# Altium integrated library Motorola Microcontroller 32-Bit.IntLib: 337 symbols (part 28 of 29)
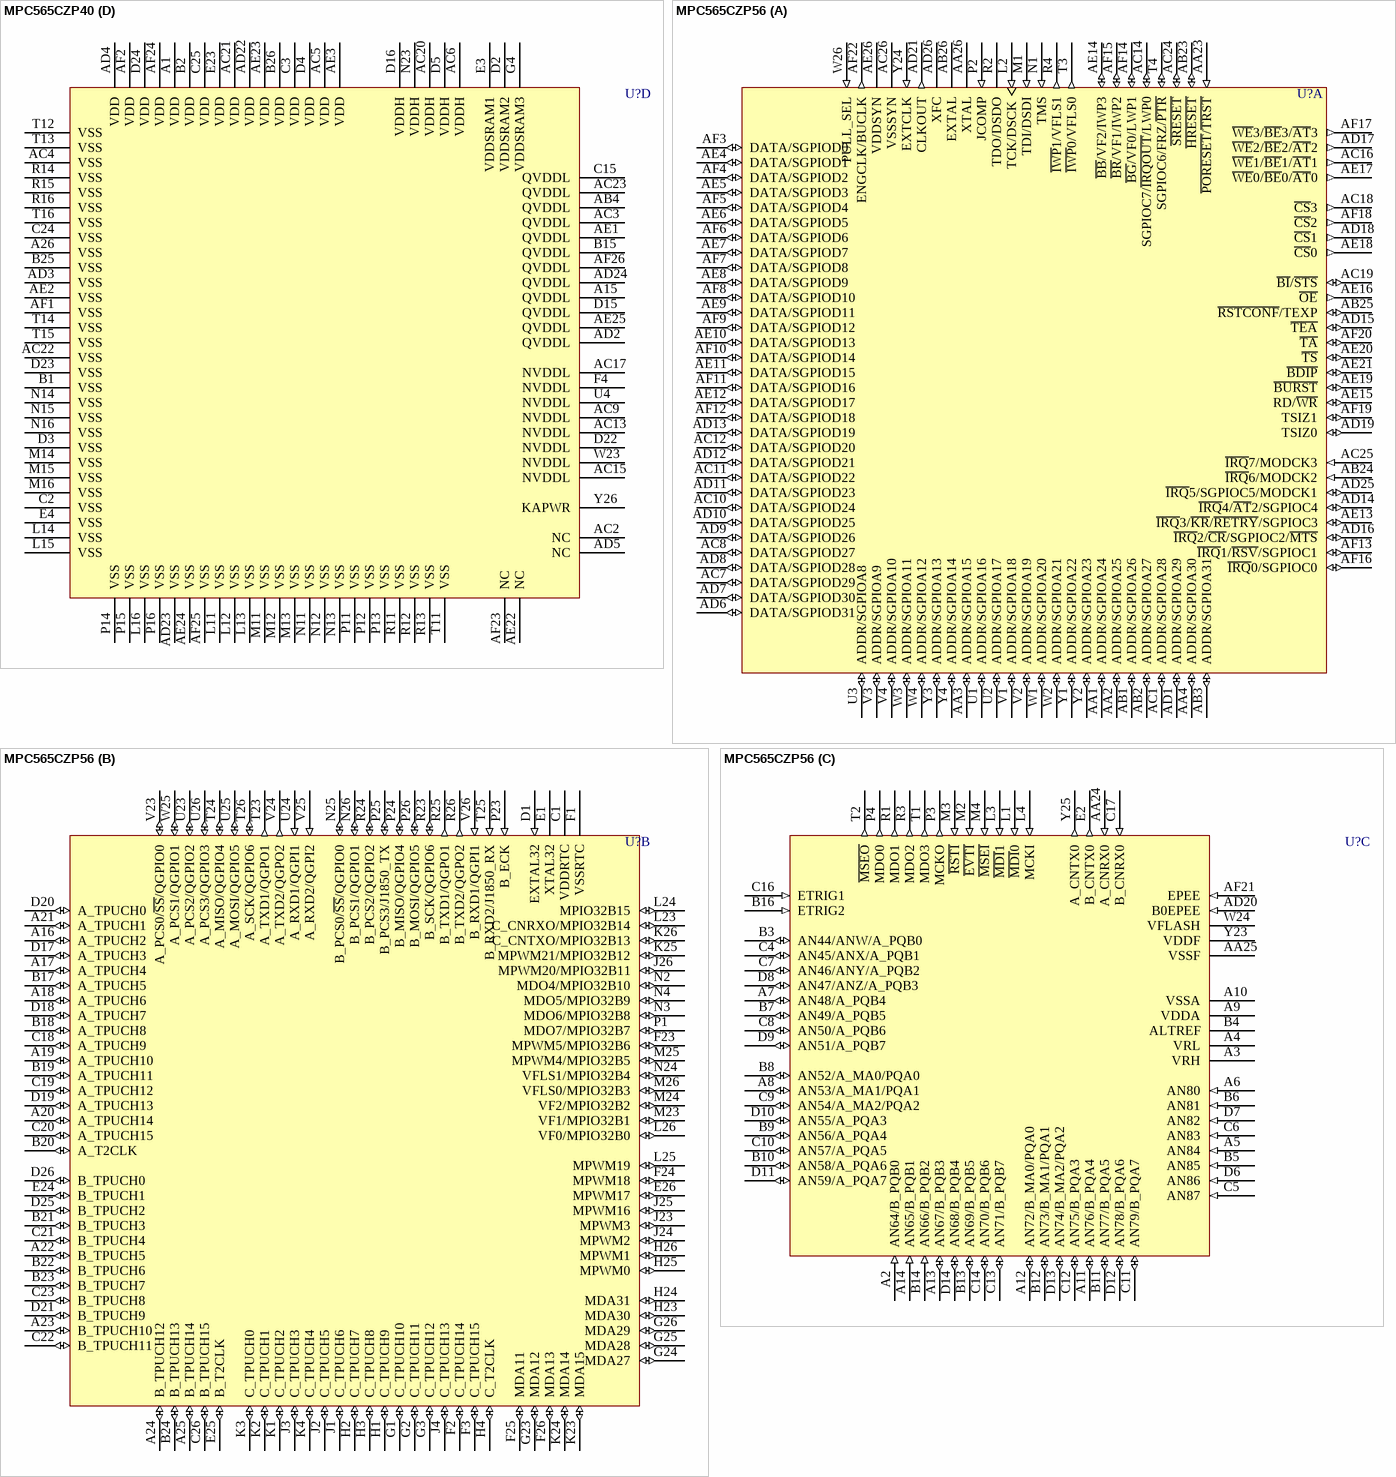
[diagram p266: symbols MPC565CZP40 to MPC565CZP56]

## MPC565CZP40
designator U?
32-Bit Microcontroller; Published: 21-Mar-2003; LatestRevisionDate: 13-Apr-2006; LatestRevisionNote: IPC-7351 Footprint Added.; DatasheetVersion: 13-Sep-2002; PackageVersion: Jun-2001; PackageReference: 1164-01; Publisher: Altium Limited; PackageDescription: 388-Ball Plastic Ball Grid Array 1 mm Pitch; ComponentLink1Description: Manufacturer Link; ComponentLink1URL: http://www.freescale.com/
footprint 1164-01 (BGA, 388-Leads, Body 27x27mm, Pitch 1mm)
3D model MPC565-1164-01 (388-Ball Plastic Ball Grid Array 1 mm Pitch)
part A pins: AA1 ADDR/SGPIOA24 (io), AA2 ADDR/SGPIOA25 (io), AA3 ADDR/SGPIOA15 (io), AA4 ADDR/SGPIOA30 (io), AA23 ~{PORESET}/~{TRST} (in), AA26 XTAL, AB1 ADDR/SGPIOA26 (io), AB2 ADDR/SGPIOA27 (io), AB3 ADDR/SGPIOA31 (io), AB23 ~{HRESET} (io), AB24 ~{IRQ}6/MODCK2 (in), AB25 ~{RSTCONF}/TEXP (io), AB26 EXTAL, AC1 ADDR/SGPIOA28 (io), AC7 DATA/SGPIOD29 (io), AC8 DATA/SGPIOD27 (io), AC10 DATA/SGPIOD24 (io), AC11 DATA/SGPIOD22 (io), AC12 DATA/SGPIOD20 (io), AC14 SGPIOC7/~{IRQOUT}/LWP0 (io), AC16 ~{WE}1/~{BE}1/~{AT}1 (out), AC18 ~{CS}3 (out), AC19 ~{BI}/~{STS} (io), AC24 ~{SRESET} (io), AC25 ~{IRQ}7/MODCK3 (in), AC26 VSSSYN (power), AD1 ADDR/SGPIOA29 (io), AD6 DATA/SGPIOD31 (io), AD7 DATA/SGPIOD30 (io), AD8 DATA/SGPIOD28 (io), AD9 DATA/SGPIOD26 (io), AD10 DATA/SGPIOD25 (io), AD11 DATA/SGPIOD23 (io), AD12 DATA/SGPIOD21 (io), AD13 DATA/SGPIOD19 (io), AD14 ~{IRQ}4/~{AT}2/SGPIOC4 (io), AD15 ~{TEA} (io), AD16 ~{IRQ}2/~{CR}/SGPIOC2/~{MTS} (io), AD17 ~{WE}2/~{BE}2/~{AT}2 (out), AD18 ~{CS}1 (out), AD19 TSIZ0 (io), AD21 CLKOUT (out), AD25 ~{IRQ}5/SGPIOC5/MODCK1 (io), AD26 XFC, AE4 DATA/SGPIOD1 (io), AE5 DATA/SGPIOD3 (io), AE6 DATA/SGPIOD5 (io), AE7 DATA/SGPIOD7 (io), AE8 DATA/SGPIOD9 (io), AE9 DATA/SGPIOD11 (io), AE10 DATA/SGPIOD13 (io), AE11 DATA/SGPIOD15 (io), AE12 DATA/SGPIOD17 (io), AE13 ~{IRQ}3/~{KR}/~{RETRY}/SGPIOC3 (io), AE14 ~{BB}/VF2/IWP3 (io), AE15 RD/~{WR} (io), AE16 ~{OE} (out), AE17 ~{WE}0/~{BE}0/~{AT}0 (out), AE18 ~{CS}0 (out), AE19 ~{BURST} (io), AE20 ~{TS} (io), AE21 ~{BDIP} (io), AE26 VDDSYN (power), AF3 DATA/SGPIOD0 (io), AF4 DATA/SGPIOD2 (io), AF5 DATA/SGPIOD4 (io), AF6 DATA/SGPIOD6 (io), AF7 DATA/SGPIOD8 (io), AF8 DATA/SGPIOD10 (io), AF9 DATA/SGPIOD12 (io), AF10 DATA/SGPIOD14 (io), AF11 DATA/SGPIOD16 (io), AF12 DATA/SGPIOD18 (io), AF13 ~{IRQ}1/~{RSV}/SGPIOC1 (io), AF14 ~{BG}/VF0/LWP1 (io), AF15 ~{BR}/VF1/IWP2 (io), AF16 ~{IRQ}0/SGPIOC0 (io), AF17 ~{WE}3/~{BE}3/~{AT}3 (out), AF18 ~{CS}2 (out), AF19 TSIZ1 (io), AF20 ~{TA} (io), AF22 ENGCLK/BUCLK (out), L2 TCK/DSCK (in), M1 TDI/DSDI (in), N1 TMS (in), P2 JCOMP (in), R2 TDO/DSDO (hiz), R4 ~{IWP}1/VFLS1 (out), T3 ~{IWP}0/VFLS0 (out), T4 SGPIOC6/FRZ/~{PTR} (io), U1 ADDR/SGPIOA16 (io), U2 ADDR/SGPIOA17 (io), U3 ADDR/SGPIOA8 (io), V1 ADDR/SGPIOA18 (io), V2 ADDR/SGPIOA19 (io), V3 ADDR/SGPIOA9 (io), V4 ADDR/SGPIOA10 (io), W1 ADDR/SGPIOA20 (io), W2 ADDR/SGPIOA21 (io), W3 ADDR/SGPIOA11 (io), W4 ADDR/SGPIOA12 (io), W26 PULL_SEL (in), Y1 ADDR/SGPIOA22 (io), Y2 ADDR/SGPIOA23 (io), Y3 ADDR/SGPIOA13 (io), Y4 ADDR/SGPIOA14 (io), Y24 EXTCLK (in)
part B pins: A16 A_TPUCH2 (io), A17 A_TPUCH4 (io), A18 A_TPUCH6 (io), A19 A_TPUCH10 (io), A20 A_TPUCH14 (io), A21 A_TPUCH1 (io), A22 B_TPUCH5 (io), A23 B_TPUCH10 (io), A24 B_TPUCH12 (io), A25 B_TPUCH14 (io), B17 A_TPUCH5 (io), B18 A_TPUCH8 (io), B19 A_TPUCH11 (io), B20 A_T2CLK (io), B21 B_TPUCH3 (io), B22 B_TPUCH6 (io), B23 B_TPUCH7 (io), B24 B_TPUCH13 (io), C1 VDDRTC (power), C18 A_TPUCH9 (io), C19 A_TPUCH12 (io), C20 A_TPUCH15 (io), C21 B_TPUCH4 (io), C22 B_TPUCH11 (io), C23 B_TPUCH8 (io), C26 B_TPUCH15 (io), D1 EXTAL32 (in), D17 A_TPUCH3 (io), D18 A_TPUCH7 (io), D19 A_TPUCH13 (io), D20 A_TPUCH0 (io), D21 B_TPUCH9 (io), D25 B_TPUCH2 (io), D26 B_TPUCH0 (io), E1 XTAL32, E24 B_TPUCH1 (io), E25 B_T2CLK (io), E26 MPWM17 (io), F1 VSSRTC (power), F2 C_TPUCH14 (io), F3 C_TPUCH15 (io), F23 MPWM5/MPIO32B6 (io), F24 MPWM18 (io), F25 MDA11 (io), F26 MDA13 (io), G1 C_TPUCH10 (io), G2 C_TPUCH11 (io), G3 C_TPUCH12 (io), G23 MDA12 (io), G24 MDA27 (io), G25 MDA28 (io), G26 MDA29 (io), H1 C_TPUCH9 (io), H2 C_TPUCH7 (io), H3 C_TPUCH8 (io), H4 C_T2CLK (io), H23 MDA30 (io), H24 MDA31 (io), H25 MPWM0 (io), H26 MPWM1 (io), J1 C_TPUCH6 (io), J2 C_TPUCH5 (io), J3 C_TPUCH3 (io), J4 C_TPUCH13 (io), J23 MPWM3 (io), J24 MPWM2 (io), J25 MPWM16 (io), J26 MPWM20/MPIO32B11 (io), K1 C_TPUCH2 (io), K2 C_TPUCH1 (io), K3 C_TPUCH0 (io), K4 C_TPUCH4 (io), K23 MDA15 (io), K24 MDA14 (io), K25 MPWM21/MPIO32B12 (io), K26 C_CNTXO/MPIO32B13 (io), L23 C_CNRXO/MPIO32B14 (io), L24 MPIO32B15 (io), L25 MPWM19 (io), L26 VF0/MPIO32B0 (io), M23 VF1/MPIO32B1 (io), M24 VF2/MPIO32B2 (io), M25 MPWM4/MPIO32B5 (io), M26 VFLS0/MPIO32B3 (io), N2 MDO4/MPIO32B10 (io), N3 MDO6/MPIO32B8 (io), N4 MDO5/MPIO32B9 (io), N24 VFLS1/MPIO32B4 (io), N25 B_PCS0/~{SS}/QGPIO0 (io), N26 B_PCS1/QGPIO1 (io), P1 MDO7/MPIO32B7 (io), P23 B_ECK (in), P24 B_MISO/QGPIO4 (io), P25 B_PCS3/J1850_TX (io), P26 B_MOSI/QGPIO5 (io), R23 B_SCK/QGPIO6 (io), R24 B_PCS2/QGPIO2 (io), R25 B_TXD1/QGPO1 (out), R26 B_TXD2/QGPO2 (out), T23 A_TXD1/QGPO1 (out), T24 A_MISO/QGPIO4 (io), T25 B_RXD2/J1850_RX (in), T26 A_SCK/QGPIO6 (io), U23 A_PCS2/QGPIO2 (io), U24 A_RXD1/QGPI1 (in), U25 A_MOSI/QGPIO5 (io), U26 A_PCS3/QGPIO3 (io), V23 A_PCS0/~{SS}/QGPIO0 (io), V24 A_TXD2/QGPO2 (out), V25 A_RXD2/QGPI2 (in), V26 B_RXD1/QGPI1 (in), W25 A_PCS1/QGPIO1 (io)
part C pins: A2 AN64/B_PQB0 (in), A3 VRH, A4 VRL, A5 AN84 (in), A6 AN80 (in), A7 AN48/A_PQB4 (io), A8 AN53/A_MA1/PQA1 (io), A9 VDDA (power), A10 VSSA (power), A11 AN76/B_PQA4 (io), A12 AN72/B_MA0/PQA0 (io), A13 AN67/B_PQB3 (io), A14 AN65/B_PQB1 (in), AA24 A_CNRX0 (in), AA25 VSSF (power), AD20 B0EPEE (in), AF21 EPEE (in), B3 AN44/ANW/A_PQB0 (io), B4 ALTREF, B5 AN85 (in), B6 AN81 (in), B7 AN49/A_PQB5 (io), B8 AN52/A_MA0/PQA0 (io), B9 AN56/A_PQA4 (io), B10 AN58/A_PQA6 (io), B11 AN77/B_PQA5 (io), B12 AN73/B_MA1/PQA1 (io), B13 AN69/B_PQB5 (io), B14 AN66/B_PQB2 (in), B16 ETRIG2 (in), C4 AN45/ANX/A_PQB1 (io), C5 AN87 (in), C6 AN83 (in), C7 AN46/ANY/A_PQB2 (io), C8 AN50/A_PQB6 (io), C9 AN54/A_MA2/PQA2 (io), C10 AN57/A_PQA5 (io), C11 AN79/B_PQA7 (io), C12 AN75/B_PQA3 (io), C13 AN71/B_PQB7 (io), C14 AN70/B_PQB6 (io), C16 ETRIG1 (in), C17 B_CNRX0 (in), D6 AN86 (in), D7 AN82 (in), D8 AN47/ANZ/A_PQB3 (io), D9 AN51/A_PQB7 (io), D10 AN55/A_PQA3 (io), D11 AN59/A_PQA7 (io), D12 AN78/B_PQA6 (io), D13 AN74/B_MA2/PQA2 (io), D14 AN68/B_PQB4 (io), E2 B_CNTX0 (out), L1 ~{MDI}0 (in), L3 ~{MDI}1 (in), L4 MCKI (in), M2 ~{EVTI} (in), M3 ~{RSTI} (in), M4 ~{MSEI} (in), P3 MCKO (out), P4 MDO0 (out), R1 MDO1 (out), R3 MDO2 (out), T1 MDO3 (out), T2 ~{MSEO} (out), W24 VFLASH (power), Y23 VDDF (power), Y25 A_CNTX0 (out)
part D pins: A1 VDD (power), A15 QVDDL (power), A26 VSS (power), AB4 QVDDL (power), AC2 NC, AC3 QVDDL (power), AC4 VSS (power), AC5 VDD (power), AC6 VDDH (power), AC9 NVDDL (power), AC13 NVDDL (power), AC15 NVDDL (power), AC17 NVDDL (power), AC20 VDDH (power), AC21 VDD (power), AC22 VSS (power), AC23 QVDDL (power), AD2 QVDDL (power), AD3 VSS (power), AD4 VDD (power), AD5 NC, AD22 VDD (power), AD23 VSS (power), AD24 QVDDL (power), AE1 QVDDL (power), AE2 VSS (power), AE3 VDD (power), AE22 NC, AE23 VDD (power), AE24 VSS (power), AE25 QVDDL (power), AF1 VSS (power), AF2 VDD (power), AF23 NC, AF24 VDD (power), AF25 VSS (power), AF26 QVDDL (power), B1 VSS (power), B2 VDD (power), B15 QVDDL (power), B25 VSS (power), B26 VDD (power), C2 VSS (power), C3 VDD (power), C15 QVDDL (power), C24 VSS (power), C25 VDD (power), D2 VDDSRAM2 (power), D3 VSS (power), D4 VDD (power), D5 VDDH (power), D15 QVDDL (power), D16 VDDH (power), D22 NVDDL (power), D23 VSS (power), D24 VDD (power), E3 VDDSRAM1 (power), E4 VSS (power), E23 VDD (power), F4 NVDDL (power), G4 VDDSRAM3 (power), L11 VSS (power), L12 VSS (power), L13 VSS (power), L14 VSS (power), L15 VSS (power), L16 VSS (power), M11 VSS (power), M12 VSS (power), M13 VSS (power), M14 VSS (power), M15 VSS (power), M16 VSS (power), N11 VSS (power), N12 VSS (power), N13 VSS (power), N14 VSS (power), N15 VSS (power), N16 VSS (power), N23 VDDH (power), P11 VSS (power), P12 VSS (power), P13 VSS (power), P14 VSS (power), P15 VSS (power), P16 VSS (power), R11 VSS (power), R12 VSS (power), R13 VSS (power), R14 VSS (power), R15 VSS (power), R16 VSS (power), T11 VSS (power), T12 VSS (power), T13 VSS (power), T14 VSS (power), T15 VSS (power), T16 VSS (power), U4 NVDDL (power), W23 NVDDL (power), Y26 KAPWR (power)

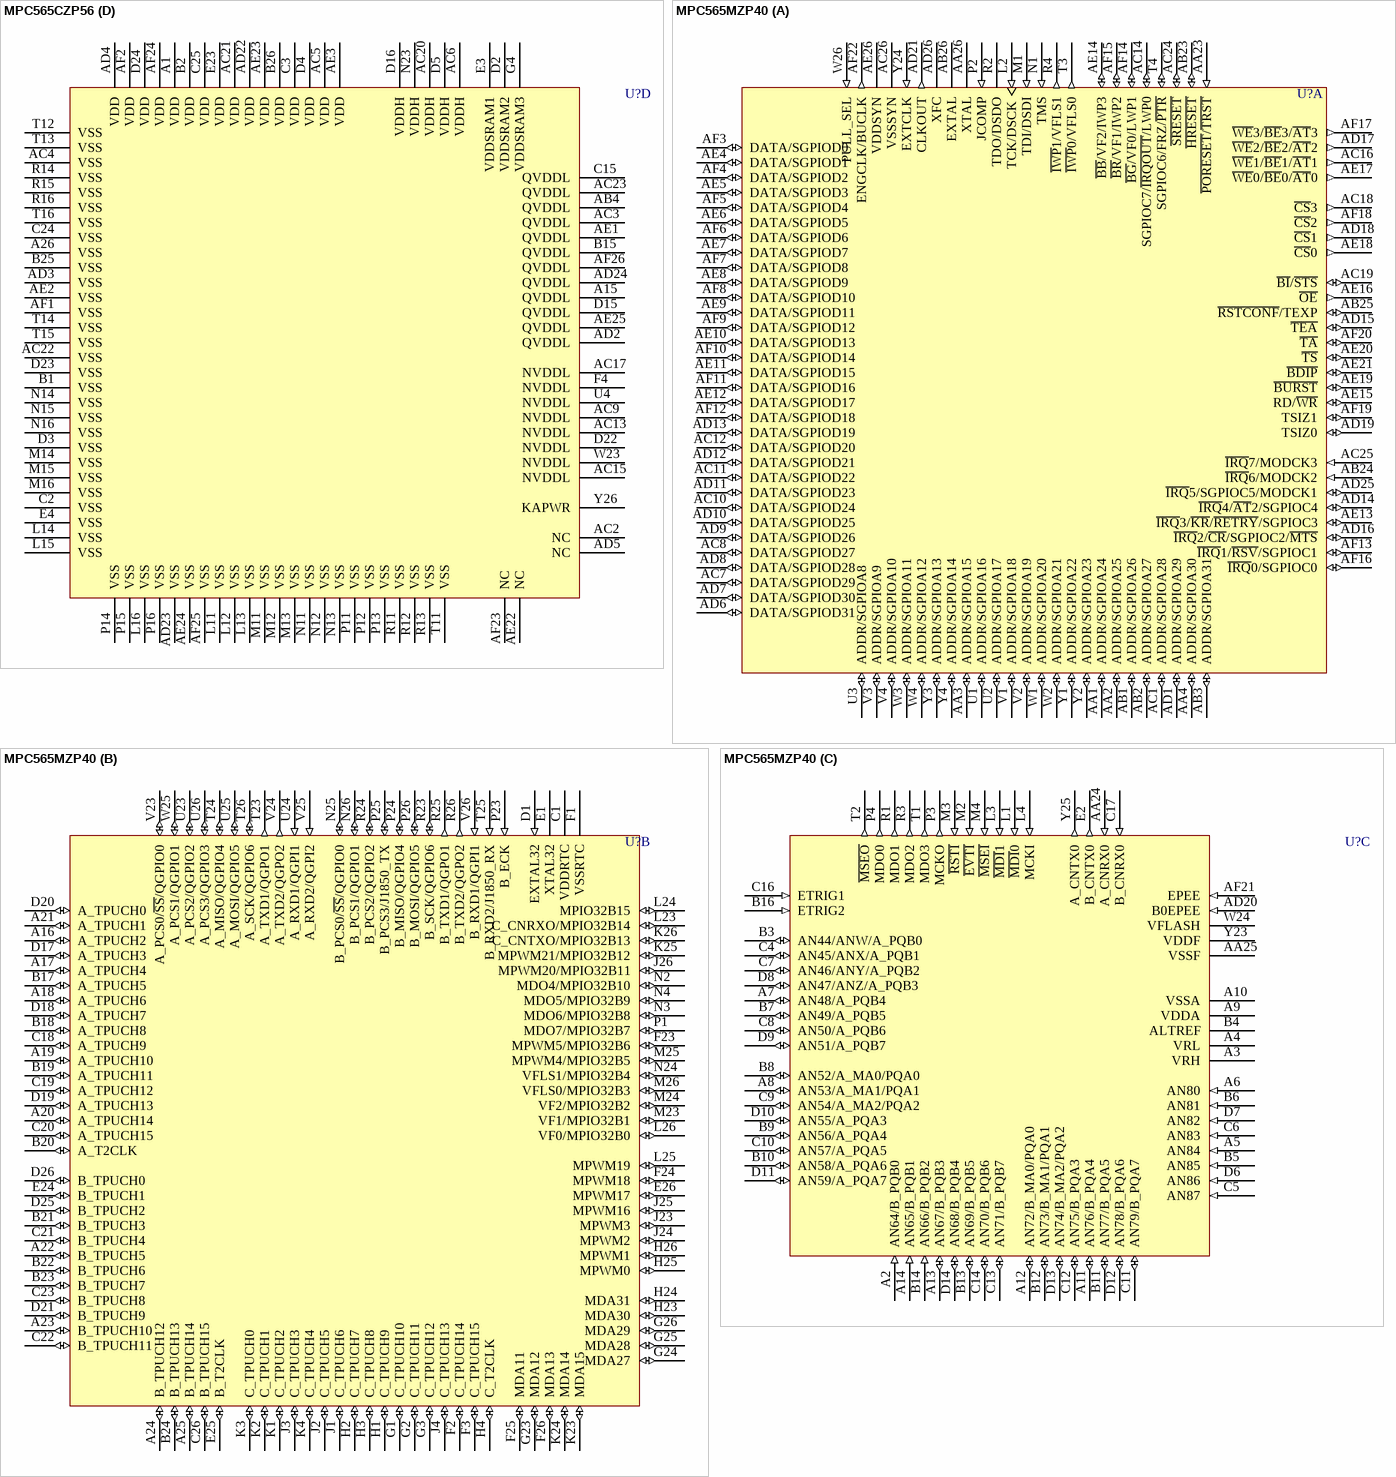
[diagram p234: symbols MPC565CZP56 to MPC565MZP40]

## MPC565CZP56
designator U?
32-Bit Microcontroller; Published: 21-Mar-2003; LatestRevisionDate: 13-Apr-2006; LatestRevisionNote: IPC-7351 Footprint Added.; DatasheetVersion: 13-Sep-2002; PackageVersion: Jun-2001; PackageReference: 1164-01; Publisher: Altium Limited; PackageDescription: 388-Ball Plastic Ball Grid Array 1 mm Pitch; ComponentLink1Description: Manufacturer Link; ComponentLink1URL: http://www.freescale.com/
footprint 1164-01 (BGA, 388-Leads, Body 27x27mm, Pitch 1mm)
3D model MPC565-1164-01 (388-Ball Plastic Ball Grid Array 1 mm Pitch)
part A pins: AA1 ADDR/SGPIOA24 (io), AA2 ADDR/SGPIOA25 (io), AA3 ADDR/SGPIOA15 (io), AA4 ADDR/SGPIOA30 (io), AA23 ~{PORESET}/~{TRST} (in), AA26 XTAL, AB1 ADDR/SGPIOA26 (io), AB2 ADDR/SGPIOA27 (io), AB3 ADDR/SGPIOA31 (io), AB23 ~{HRESET} (io), AB24 ~{IRQ}6/MODCK2 (in), AB25 ~{RSTCONF}/TEXP (io), AB26 EXTAL, AC1 ADDR/SGPIOA28 (io), AC7 DATA/SGPIOD29 (io), AC8 DATA/SGPIOD27 (io), AC10 DATA/SGPIOD24 (io), AC11 DATA/SGPIOD22 (io), AC12 DATA/SGPIOD20 (io), AC14 SGPIOC7/~{IRQOUT}/LWP0 (io), AC16 ~{WE}1/~{BE}1/~{AT}1 (out), AC18 ~{CS}3 (out), AC19 ~{BI}/~{STS} (io), AC24 ~{SRESET} (io), AC25 ~{IRQ}7/MODCK3 (in), AC26 VSSSYN (power), AD1 ADDR/SGPIOA29 (io), AD6 DATA/SGPIOD31 (io), AD7 DATA/SGPIOD30 (io), AD8 DATA/SGPIOD28 (io), AD9 DATA/SGPIOD26 (io), AD10 DATA/SGPIOD25 (io), AD11 DATA/SGPIOD23 (io), AD12 DATA/SGPIOD21 (io), AD13 DATA/SGPIOD19 (io), AD14 ~{IRQ}4/~{AT}2/SGPIOC4 (io), AD15 ~{TEA} (io), AD16 ~{IRQ}2/~{CR}/SGPIOC2/~{MTS} (io), AD17 ~{WE}2/~{BE}2/~{AT}2 (out), AD18 ~{CS}1 (out), AD19 TSIZ0 (io), AD21 CLKOUT (out), AD25 ~{IRQ}5/SGPIOC5/MODCK1 (io), AD26 XFC, AE4 DATA/SGPIOD1 (io), AE5 DATA/SGPIOD3 (io), AE6 DATA/SGPIOD5 (io), AE7 DATA/SGPIOD7 (io), AE8 DATA/SGPIOD9 (io), AE9 DATA/SGPIOD11 (io), AE10 DATA/SGPIOD13 (io), AE11 DATA/SGPIOD15 (io), AE12 DATA/SGPIOD17 (io), AE13 ~{IRQ}3/~{KR}/~{RETRY}/SGPIOC3 (io), AE14 ~{BB}/VF2/IWP3 (io), AE15 RD/~{WR} (io), AE16 ~{OE} (out), AE17 ~{WE}0/~{BE}0/~{AT}0 (out), AE18 ~{CS}0 (out), AE19 ~{BURST} (io), AE20 ~{TS} (io), AE21 ~{BDIP} (io), AE26 VDDSYN (power), AF3 DATA/SGPIOD0 (io), AF4 DATA/SGPIOD2 (io), AF5 DATA/SGPIOD4 (io), AF6 DATA/SGPIOD6 (io), AF7 DATA/SGPIOD8 (io), AF8 DATA/SGPIOD10 (io), AF9 DATA/SGPIOD12 (io), AF10 DATA/SGPIOD14 (io), AF11 DATA/SGPIOD16 (io), AF12 DATA/SGPIOD18 (io), AF13 ~{IRQ}1/~{RSV}/SGPIOC1 (io), AF14 ~{BG}/VF0/LWP1 (io), AF15 ~{BR}/VF1/IWP2 (io), AF16 ~{IRQ}0/SGPIOC0 (io), AF17 ~{WE}3/~{BE}3/~{AT}3 (out), AF18 ~{CS}2 (out), AF19 TSIZ1 (io), AF20 ~{TA} (io), AF22 ENGCLK/BUCLK (out), L2 TCK/DSCK (in), M1 TDI/DSDI (in), N1 TMS (in), P2 JCOMP (in), R2 TDO/DSDO (hiz), R4 ~{IWP}1/VFLS1 (out), T3 ~{IWP}0/VFLS0 (out), T4 SGPIOC6/FRZ/~{PTR} (io), U1 ADDR/SGPIOA16 (io), U2 ADDR/SGPIOA17 (io), U3 ADDR/SGPIOA8 (io), V1 ADDR/SGPIOA18 (io), V2 ADDR/SGPIOA19 (io), V3 ADDR/SGPIOA9 (io), V4 ADDR/SGPIOA10 (io), W1 ADDR/SGPIOA20 (io), W2 ADDR/SGPIOA21 (io), W3 ADDR/SGPIOA11 (io), W4 ADDR/SGPIOA12 (io), W26 PULL_SEL (in), Y1 ADDR/SGPIOA22 (io), Y2 ADDR/SGPIOA23 (io), Y3 ADDR/SGPIOA13 (io), Y4 ADDR/SGPIOA14 (io), Y24 EXTCLK (in)
part B pins: A16 A_TPUCH2 (io), A17 A_TPUCH4 (io), A18 A_TPUCH6 (io), A19 A_TPUCH10 (io), A20 A_TPUCH14 (io), A21 A_TPUCH1 (io), A22 B_TPUCH5 (io), A23 B_TPUCH10 (io), A24 B_TPUCH12 (io), A25 B_TPUCH14 (io), B17 A_TPUCH5 (io), B18 A_TPUCH8 (io), B19 A_TPUCH11 (io), B20 A_T2CLK (io), B21 B_TPUCH3 (io), B22 B_TPUCH6 (io), B23 B_TPUCH7 (io), B24 B_TPUCH13 (io), C1 VDDRTC (power), C18 A_TPUCH9 (io), C19 A_TPUCH12 (io), C20 A_TPUCH15 (io), C21 B_TPUCH4 (io), C22 B_TPUCH11 (io), C23 B_TPUCH8 (io), C26 B_TPUCH15 (io), D1 EXTAL32 (in), D17 A_TPUCH3 (io), D18 A_TPUCH7 (io), D19 A_TPUCH13 (io), D20 A_TPUCH0 (io), D21 B_TPUCH9 (io), D25 B_TPUCH2 (io), D26 B_TPUCH0 (io), E1 XTAL32, E24 B_TPUCH1 (io), E25 B_T2CLK (io), E26 MPWM17 (io), F1 VSSRTC (power), F2 C_TPUCH14 (io), F3 C_TPUCH15 (io), F23 MPWM5/MPIO32B6 (io), F24 MPWM18 (io), F25 MDA11 (io), F26 MDA13 (io), G1 C_TPUCH10 (io), G2 C_TPUCH11 (io), G3 C_TPUCH12 (io), G23 MDA12 (io), G24 MDA27 (io), G25 MDA28 (io), G26 MDA29 (io), H1 C_TPUCH9 (io), H2 C_TPUCH7 (io), H3 C_TPUCH8 (io), H4 C_T2CLK (io), H23 MDA30 (io), H24 MDA31 (io), H25 MPWM0 (io), H26 MPWM1 (io), J1 C_TPUCH6 (io), J2 C_TPUCH5 (io), J3 C_TPUCH3 (io), J4 C_TPUCH13 (io), J23 MPWM3 (io), J24 MPWM2 (io), J25 MPWM16 (io), J26 MPWM20/MPIO32B11 (io), K1 C_TPUCH2 (io), K2 C_TPUCH1 (io), K3 C_TPUCH0 (io), K4 C_TPUCH4 (io), K23 MDA15 (io), K24 MDA14 (io), K25 MPWM21/MPIO32B12 (io), K26 C_CNTXO/MPIO32B13 (io), L23 C_CNRXO/MPIO32B14 (io), L24 MPIO32B15 (io), L25 MPWM19 (io), L26 VF0/MPIO32B0 (io), M23 VF1/MPIO32B1 (io), M24 VF2/MPIO32B2 (io), M25 MPWM4/MPIO32B5 (io), M26 VFLS0/MPIO32B3 (io), N2 MDO4/MPIO32B10 (io), N3 MDO6/MPIO32B8 (io), N4 MDO5/MPIO32B9 (io), N24 VFLS1/MPIO32B4 (io), N25 B_PCS0/~{SS}/QGPIO0 (io), N26 B_PCS1/QGPIO1 (io), P1 MDO7/MPIO32B7 (io), P23 B_ECK (in), P24 B_MISO/QGPIO4 (io), P25 B_PCS3/J1850_TX (io), P26 B_MOSI/QGPIO5 (io), R23 B_SCK/QGPIO6 (io), R24 B_PCS2/QGPIO2 (io), R25 B_TXD1/QGPO1 (out), R26 B_TXD2/QGPO2 (out), T23 A_TXD1/QGPO1 (out), T24 A_MISO/QGPIO4 (io), T25 B_RXD2/J1850_RX (in), T26 A_SCK/QGPIO6 (io), U23 A_PCS2/QGPIO2 (io), U24 A_RXD1/QGPI1 (in), U25 A_MOSI/QGPIO5 (io), U26 A_PCS3/QGPIO3 (io), V23 A_PCS0/~{SS}/QGPIO0 (io), V24 A_TXD2/QGPO2 (out), V25 A_RXD2/QGPI2 (in), V26 B_RXD1/QGPI1 (in), W25 A_PCS1/QGPIO1 (io)
part C pins: A2 AN64/B_PQB0 (in), A3 VRH, A4 VRL, A5 AN84 (in), A6 AN80 (in), A7 AN48/A_PQB4 (io), A8 AN53/A_MA1/PQA1 (io), A9 VDDA (power), A10 VSSA (power), A11 AN76/B_PQA4 (io), A12 AN72/B_MA0/PQA0 (io), A13 AN67/B_PQB3 (io), A14 AN65/B_PQB1 (in), AA24 A_CNRX0 (in), AA25 VSSF (power), AD20 B0EPEE (in), AF21 EPEE (in), B3 AN44/ANW/A_PQB0 (io), B4 ALTREF, B5 AN85 (in), B6 AN81 (in), B7 AN49/A_PQB5 (io), B8 AN52/A_MA0/PQA0 (io), B9 AN56/A_PQA4 (io), B10 AN58/A_PQA6 (io), B11 AN77/B_PQA5 (io), B12 AN73/B_MA1/PQA1 (io), B13 AN69/B_PQB5 (io), B14 AN66/B_PQB2 (in), B16 ETRIG2 (in), C4 AN45/ANX/A_PQB1 (io), C5 AN87 (in), C6 AN83 (in), C7 AN46/ANY/A_PQB2 (io), C8 AN50/A_PQB6 (io), C9 AN54/A_MA2/PQA2 (io), C10 AN57/A_PQA5 (io), C11 AN79/B_PQA7 (io), C12 AN75/B_PQA3 (io), C13 AN71/B_PQB7 (io), C14 AN70/B_PQB6 (io), C16 ETRIG1 (in), C17 B_CNRX0 (in), D6 AN86 (in), D7 AN82 (in), D8 AN47/ANZ/A_PQB3 (io), D9 AN51/A_PQB7 (io), D10 AN55/A_PQA3 (io), D11 AN59/A_PQA7 (io), D12 AN78/B_PQA6 (io), D13 AN74/B_MA2/PQA2 (io), D14 AN68/B_PQB4 (io), E2 B_CNTX0 (out), L1 ~{MDI}0 (in), L3 ~{MDI}1 (in), L4 MCKI (in), M2 ~{EVTI} (in), M3 ~{RSTI} (in), M4 ~{MSEI} (in), P3 MCKO (out), P4 MDO0 (out), R1 MDO1 (out), R3 MDO2 (out), T1 MDO3 (out), T2 ~{MSEO} (out), W24 VFLASH (power), Y23 VDDF (power), Y25 A_CNTX0 (out)
part D pins: A1 VDD (power), A15 QVDDL (power), A26 VSS (power), AB4 QVDDL (power), AC2 NC, AC3 QVDDL (power), AC4 VSS (power), AC5 VDD (power), AC6 VDDH (power), AC9 NVDDL (power), AC13 NVDDL (power), AC15 NVDDL (power), AC17 NVDDL (power), AC20 VDDH (power), AC21 VDD (power), AC22 VSS (power), AC23 QVDDL (power), AD2 QVDDL (power), AD3 VSS (power), AD4 VDD (power), AD5 NC, AD22 VDD (power), AD23 VSS (power), AD24 QVDDL (power), AE1 QVDDL (power), AE2 VSS (power), AE3 VDD (power), AE22 NC, AE23 VDD (power), AE24 VSS (power), AE25 QVDDL (power), AF1 VSS (power), AF2 VDD (power), AF23 NC, AF24 VDD (power), AF25 VSS (power), AF26 QVDDL (power), B1 VSS (power), B2 VDD (power), B15 QVDDL (power), B25 VSS (power), B26 VDD (power), C2 VSS (power), C3 VDD (power), C15 QVDDL (power), C24 VSS (power), C25 VDD (power), D2 VDDSRAM2 (power), D3 VSS (power), D4 VDD (power), D5 VDDH (power), D15 QVDDL (power), D16 VDDH (power), D22 NVDDL (power), D23 VSS (power), D24 VDD (power), E3 VDDSRAM1 (power), E4 VSS (power), E23 VDD (power), F4 NVDDL (power), G4 VDDSRAM3 (power), L11 VSS (power), L12 VSS (power), L13 VSS (power), L14 VSS (power), L15 VSS (power), L16 VSS (power), M11 VSS (power), M12 VSS (power), M13 VSS (power), M14 VSS (power), M15 VSS (power), M16 VSS (power), N11 VSS (power), N12 VSS (power), N13 VSS (power), N14 VSS (power), N15 VSS (power), N16 VSS (power), N23 VDDH (power), P11 VSS (power), P12 VSS (power), P13 VSS (power), P14 VSS (power), P15 VSS (power), P16 VSS (power), R11 VSS (power), R12 VSS (power), R13 VSS (power), R14 VSS (power), R15 VSS (power), R16 VSS (power), T11 VSS (power), T12 VSS (power), T13 VSS (power), T14 VSS (power), T15 VSS (power), T16 VSS (power), U4 NVDDL (power), W23 NVDDL (power), Y26 KAPWR (power)

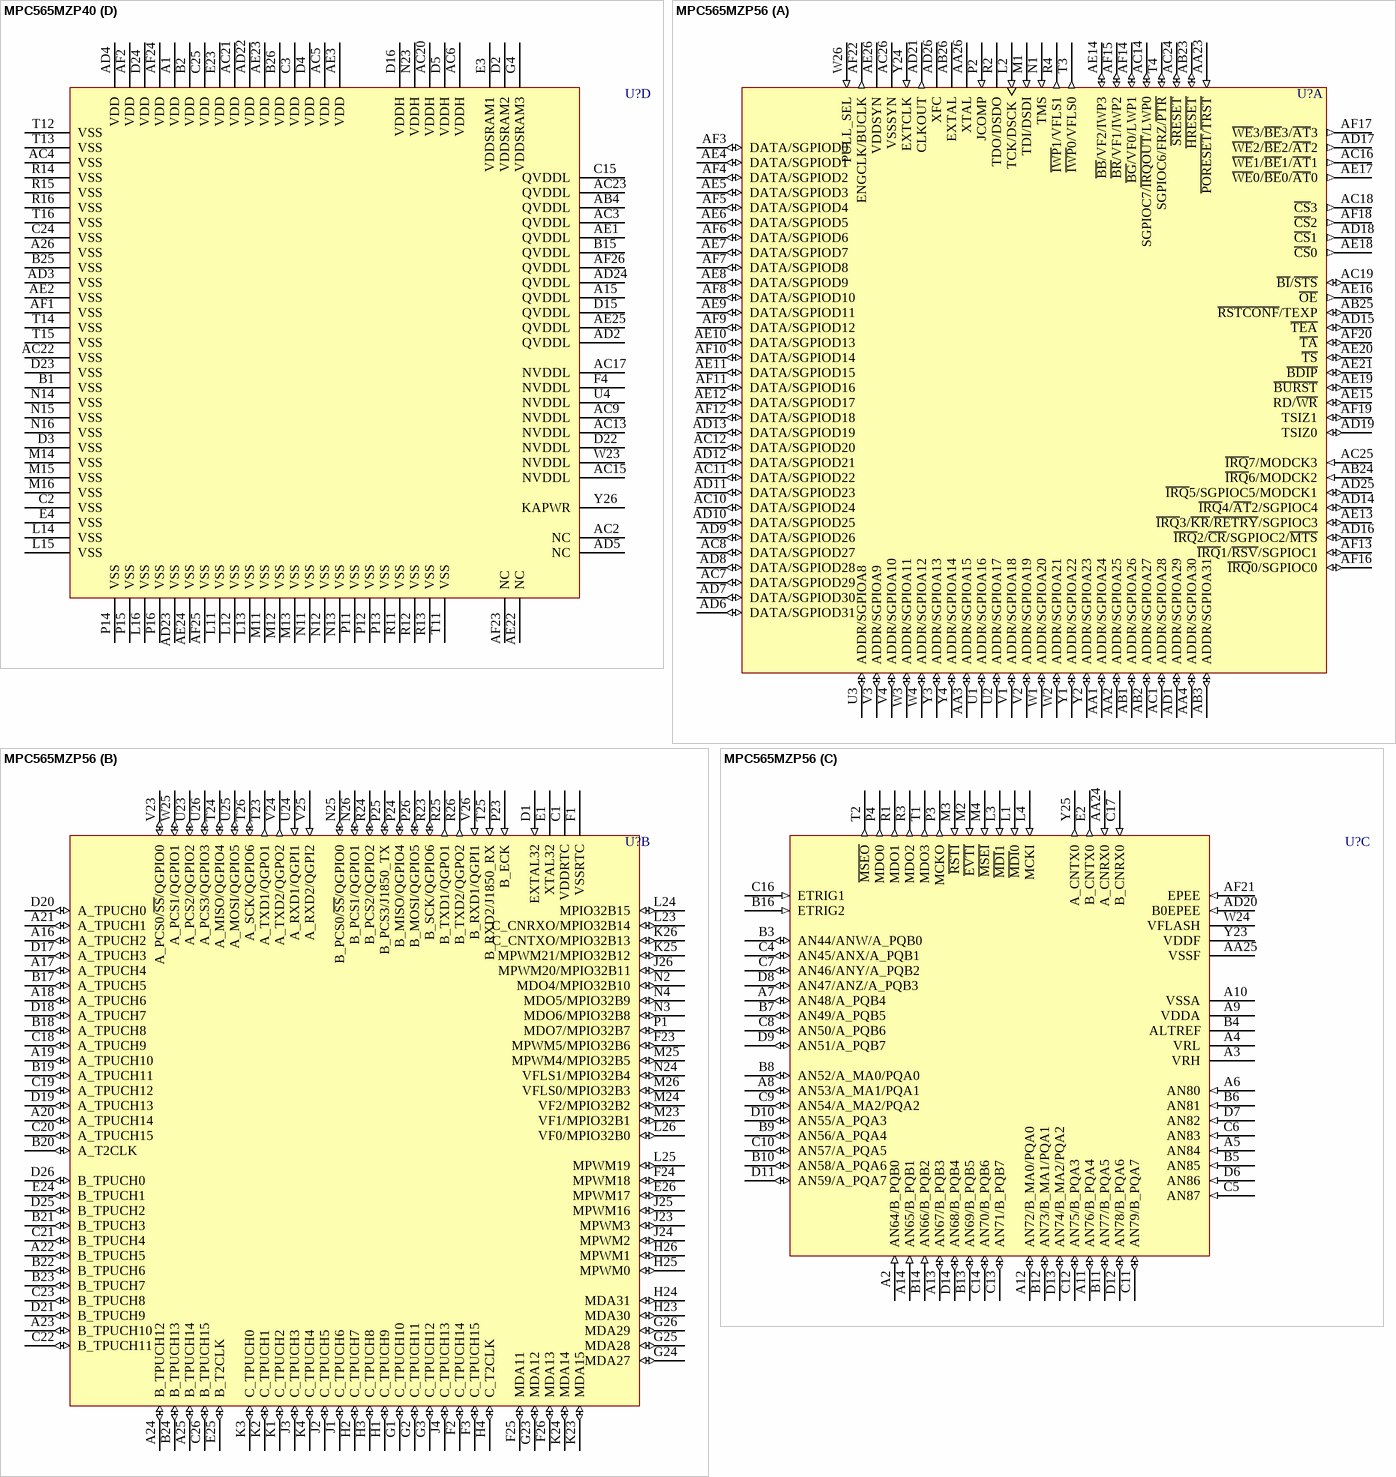
[diagram p235: symbols MPC565MZP40 to MPC565MZP56]

## MPC565MZP40
designator U?
32-Bit Microcontroller; Published: 21-Mar-2003; LatestRevisionDate: 13-Apr-2006; LatestRevisionNote: IPC-7351 Footprint Added.; DatasheetVersion: 13-Sep-2002; PackageVersion: Jun-2001; PackageReference: 1164-01; Publisher: Altium Limited; PackageDescription: 388-Ball Plastic Ball Grid Array 1 mm Pitch; ComponentLink1Description: Manufacturer Link; ComponentLink1URL: http://www.freescale.com/
footprint 1164-01 (BGA, 388-Leads, Body 27x27mm, Pitch 1mm)
3D model MPC565-1164-01 (388-Ball Plastic Ball Grid Array 1 mm Pitch)
part A pins: AA1 ADDR/SGPIOA24 (io), AA2 ADDR/SGPIOA25 (io), AA3 ADDR/SGPIOA15 (io), AA4 ADDR/SGPIOA30 (io), AA23 ~{PORESET}/~{TRST} (in), AA26 XTAL, AB1 ADDR/SGPIOA26 (io), AB2 ADDR/SGPIOA27 (io), AB3 ADDR/SGPIOA31 (io), AB23 ~{HRESET} (io), AB24 ~{IRQ}6/MODCK2 (in), AB25 ~{RSTCONF}/TEXP (io), AB26 EXTAL, AC1 ADDR/SGPIOA28 (io), AC7 DATA/SGPIOD29 (io), AC8 DATA/SGPIOD27 (io), AC10 DATA/SGPIOD24 (io), AC11 DATA/SGPIOD22 (io), AC12 DATA/SGPIOD20 (io), AC14 SGPIOC7/~{IRQOUT}/LWP0 (io), AC16 ~{WE}1/~{BE}1/~{AT}1 (out), AC18 ~{CS}3 (out), AC19 ~{BI}/~{STS} (io), AC24 ~{SRESET} (io), AC25 ~{IRQ}7/MODCK3 (in), AC26 VSSSYN (power), AD1 ADDR/SGPIOA29 (io), AD6 DATA/SGPIOD31 (io), AD7 DATA/SGPIOD30 (io), AD8 DATA/SGPIOD28 (io), AD9 DATA/SGPIOD26 (io), AD10 DATA/SGPIOD25 (io), AD11 DATA/SGPIOD23 (io), AD12 DATA/SGPIOD21 (io), AD13 DATA/SGPIOD19 (io), AD14 ~{IRQ}4/~{AT}2/SGPIOC4 (io), AD15 ~{TEA} (io), AD16 ~{IRQ}2/~{CR}/SGPIOC2/~{MTS} (io), AD17 ~{WE}2/~{BE}2/~{AT}2 (out), AD18 ~{CS}1 (out), AD19 TSIZ0 (io), AD21 CLKOUT (out), AD25 ~{IRQ}5/SGPIOC5/MODCK1 (io), AD26 XFC, AE4 DATA/SGPIOD1 (io), AE5 DATA/SGPIOD3 (io), AE6 DATA/SGPIOD5 (io), AE7 DATA/SGPIOD7 (io), AE8 DATA/SGPIOD9 (io), AE9 DATA/SGPIOD11 (io), AE10 DATA/SGPIOD13 (io), AE11 DATA/SGPIOD15 (io), AE12 DATA/SGPIOD17 (io), AE13 ~{IRQ}3/~{KR}/~{RETRY}/SGPIOC3 (io), AE14 ~{BB}/VF2/IWP3 (io), AE15 RD/~{WR} (io), AE16 ~{OE} (out), AE17 ~{WE}0/~{BE}0/~{AT}0 (out), AE18 ~{CS}0 (out), AE19 ~{BURST} (io), AE20 ~{TS} (io), AE21 ~{BDIP} (io), AE26 VDDSYN (power), AF3 DATA/SGPIOD0 (io), AF4 DATA/SGPIOD2 (io), AF5 DATA/SGPIOD4 (io), AF6 DATA/SGPIOD6 (io), AF7 DATA/SGPIOD8 (io), AF8 DATA/SGPIOD10 (io), AF9 DATA/SGPIOD12 (io), AF10 DATA/SGPIOD14 (io), AF11 DATA/SGPIOD16 (io), AF12 DATA/SGPIOD18 (io), AF13 ~{IRQ}1/~{RSV}/SGPIOC1 (io), AF14 ~{BG}/VF0/LWP1 (io), AF15 ~{BR}/VF1/IWP2 (io), AF16 ~{IRQ}0/SGPIOC0 (io), AF17 ~{WE}3/~{BE}3/~{AT}3 (out), AF18 ~{CS}2 (out), AF19 TSIZ1 (io), AF20 ~{TA} (io), AF22 ENGCLK/BUCLK (out), L2 TCK/DSCK (in), M1 TDI/DSDI (in), N1 TMS (in), P2 JCOMP (in), R2 TDO/DSDO (hiz), R4 ~{IWP}1/VFLS1 (out), T3 ~{IWP}0/VFLS0 (out), T4 SGPIOC6/FRZ/~{PTR} (io), U1 ADDR/SGPIOA16 (io), U2 ADDR/SGPIOA17 (io), U3 ADDR/SGPIOA8 (io), V1 ADDR/SGPIOA18 (io), V2 ADDR/SGPIOA19 (io), V3 ADDR/SGPIOA9 (io), V4 ADDR/SGPIOA10 (io), W1 ADDR/SGPIOA20 (io), W2 ADDR/SGPIOA21 (io), W3 ADDR/SGPIOA11 (io), W4 ADDR/SGPIOA12 (io), W26 PULL_SEL (in), Y1 ADDR/SGPIOA22 (io), Y2 ADDR/SGPIOA23 (io), Y3 ADDR/SGPIOA13 (io), Y4 ADDR/SGPIOA14 (io), Y24 EXTCLK (in)
part B pins: A16 A_TPUCH2 (io), A17 A_TPUCH4 (io), A18 A_TPUCH6 (io), A19 A_TPUCH10 (io), A20 A_TPUCH14 (io), A21 A_TPUCH1 (io), A22 B_TPUCH5 (io), A23 B_TPUCH10 (io), A24 B_TPUCH12 (io), A25 B_TPUCH14 (io), B17 A_TPUCH5 (io), B18 A_TPUCH8 (io), B19 A_TPUCH11 (io), B20 A_T2CLK (io), B21 B_TPUCH3 (io), B22 B_TPUCH6 (io), B23 B_TPUCH7 (io), B24 B_TPUCH13 (io), C1 VDDRTC (power), C18 A_TPUCH9 (io), C19 A_TPUCH12 (io), C20 A_TPUCH15 (io), C21 B_TPUCH4 (io), C22 B_TPUCH11 (io), C23 B_TPUCH8 (io), C26 B_TPUCH15 (io), D1 EXTAL32 (in), D17 A_TPUCH3 (io), D18 A_TPUCH7 (io), D19 A_TPUCH13 (io), D20 A_TPUCH0 (io), D21 B_TPUCH9 (io), D25 B_TPUCH2 (io), D26 B_TPUCH0 (io), E1 XTAL32, E24 B_TPUCH1 (io), E25 B_T2CLK (io), E26 MPWM17 (io), F1 VSSRTC (power), F2 C_TPUCH14 (io), F3 C_TPUCH15 (io), F23 MPWM5/MPIO32B6 (io), F24 MPWM18 (io), F25 MDA11 (io), F26 MDA13 (io), G1 C_TPUCH10 (io), G2 C_TPUCH11 (io), G3 C_TPUCH12 (io), G23 MDA12 (io), G24 MDA27 (io), G25 MDA28 (io), G26 MDA29 (io), H1 C_TPUCH9 (io), H2 C_TPUCH7 (io), H3 C_TPUCH8 (io), H4 C_T2CLK (io), H23 MDA30 (io), H24 MDA31 (io), H25 MPWM0 (io), H26 MPWM1 (io), J1 C_TPUCH6 (io), J2 C_TPUCH5 (io), J3 C_TPUCH3 (io), J4 C_TPUCH13 (io), J23 MPWM3 (io), J24 MPWM2 (io), J25 MPWM16 (io), J26 MPWM20/MPIO32B11 (io), K1 C_TPUCH2 (io), K2 C_TPUCH1 (io), K3 C_TPUCH0 (io), K4 C_TPUCH4 (io), K23 MDA15 (io), K24 MDA14 (io), K25 MPWM21/MPIO32B12 (io), K26 C_CNTXO/MPIO32B13 (io), L23 C_CNRXO/MPIO32B14 (io), L24 MPIO32B15 (io), L25 MPWM19 (io), L26 VF0/MPIO32B0 (io), M23 VF1/MPIO32B1 (io), M24 VF2/MPIO32B2 (io), M25 MPWM4/MPIO32B5 (io), M26 VFLS0/MPIO32B3 (io), N2 MDO4/MPIO32B10 (io), N3 MDO6/MPIO32B8 (io), N4 MDO5/MPIO32B9 (io), N24 VFLS1/MPIO32B4 (io), N25 B_PCS0/~{SS}/QGPIO0 (io), N26 B_PCS1/QGPIO1 (io), P1 MDO7/MPIO32B7 (io), P23 B_ECK (in), P24 B_MISO/QGPIO4 (io), P25 B_PCS3/J1850_TX (io), P26 B_MOSI/QGPIO5 (io), R23 B_SCK/QGPIO6 (io), R24 B_PCS2/QGPIO2 (io), R25 B_TXD1/QGPO1 (out), R26 B_TXD2/QGPO2 (out), T23 A_TXD1/QGPO1 (out), T24 A_MISO/QGPIO4 (io), T25 B_RXD2/J1850_RX (in), T26 A_SCK/QGPIO6 (io), U23 A_PCS2/QGPIO2 (io), U24 A_RXD1/QGPI1 (in), U25 A_MOSI/QGPIO5 (io), U26 A_PCS3/QGPIO3 (io), V23 A_PCS0/~{SS}/QGPIO0 (io), V24 A_TXD2/QGPO2 (out), V25 A_RXD2/QGPI2 (in), V26 B_RXD1/QGPI1 (in), W25 A_PCS1/QGPIO1 (io)
part C pins: A2 AN64/B_PQB0 (in), A3 VRH, A4 VRL, A5 AN84 (in), A6 AN80 (in), A7 AN48/A_PQB4 (io), A8 AN53/A_MA1/PQA1 (io), A9 VDDA (power), A10 VSSA (power), A11 AN76/B_PQA4 (io), A12 AN72/B_MA0/PQA0 (io), A13 AN67/B_PQB3 (io), A14 AN65/B_PQB1 (in), AA24 A_CNRX0 (in), AA25 VSSF (power), AD20 B0EPEE (in), AF21 EPEE (in), B3 AN44/ANW/A_PQB0 (io), B4 ALTREF, B5 AN85 (in), B6 AN81 (in), B7 AN49/A_PQB5 (io), B8 AN52/A_MA0/PQA0 (io), B9 AN56/A_PQA4 (io), B10 AN58/A_PQA6 (io), B11 AN77/B_PQA5 (io), B12 AN73/B_MA1/PQA1 (io), B13 AN69/B_PQB5 (io), B14 AN66/B_PQB2 (in), B16 ETRIG2 (in), C4 AN45/ANX/A_PQB1 (io), C5 AN87 (in), C6 AN83 (in), C7 AN46/ANY/A_PQB2 (io), C8 AN50/A_PQB6 (io), C9 AN54/A_MA2/PQA2 (io), C10 AN57/A_PQA5 (io), C11 AN79/B_PQA7 (io), C12 AN75/B_PQA3 (io), C13 AN71/B_PQB7 (io), C14 AN70/B_PQB6 (io), C16 ETRIG1 (in), C17 B_CNRX0 (in), D6 AN86 (in), D7 AN82 (in), D8 AN47/ANZ/A_PQB3 (io), D9 AN51/A_PQB7 (io), D10 AN55/A_PQA3 (io), D11 AN59/A_PQA7 (io), D12 AN78/B_PQA6 (io), D13 AN74/B_MA2/PQA2 (io), D14 AN68/B_PQB4 (io), E2 B_CNTX0 (out), L1 ~{MDI}0 (in), L3 ~{MDI}1 (in), L4 MCKI (in), M2 ~{EVTI} (in), M3 ~{RSTI} (in), M4 ~{MSEI} (in), P3 MCKO (out), P4 MDO0 (out), R1 MDO1 (out), R3 MDO2 (out), T1 MDO3 (out), T2 ~{MSEO} (out), W24 VFLASH (power), Y23 VDDF (power), Y25 A_CNTX0 (out)
part D pins: A1 VDD (power), A15 QVDDL (power), A26 VSS (power), AB4 QVDDL (power), AC2 NC, AC3 QVDDL (power), AC4 VSS (power), AC5 VDD (power), AC6 VDDH (power), AC9 NVDDL (power), AC13 NVDDL (power), AC15 NVDDL (power), AC17 NVDDL (power), AC20 VDDH (power), AC21 VDD (power), AC22 VSS (power), AC23 QVDDL (power), AD2 QVDDL (power), AD3 VSS (power), AD4 VDD (power), AD5 NC, AD22 VDD (power), AD23 VSS (power), AD24 QVDDL (power), AE1 QVDDL (power), AE2 VSS (power), AE3 VDD (power), AE22 NC, AE23 VDD (power), AE24 VSS (power), AE25 QVDDL (power), AF1 VSS (power), AF2 VDD (power), AF23 NC, AF24 VDD (power), AF25 VSS (power), AF26 QVDDL (power), B1 VSS (power), B2 VDD (power), B15 QVDDL (power), B25 VSS (power), B26 VDD (power), C2 VSS (power), C3 VDD (power), C15 QVDDL (power), C24 VSS (power), C25 VDD (power), D2 VDDSRAM2 (power), D3 VSS (power), D4 VDD (power), D5 VDDH (power), D15 QVDDL (power), D16 VDDH (power), D22 NVDDL (power), D23 VSS (power), D24 VDD (power), E3 VDDSRAM1 (power), E4 VSS (power), E23 VDD (power), F4 NVDDL (power), G4 VDDSRAM3 (power), L11 VSS (power), L12 VSS (power), L13 VSS (power), L14 VSS (power), L15 VSS (power), L16 VSS (power), M11 VSS (power), M12 VSS (power), M13 VSS (power), M14 VSS (power), M15 VSS (power), M16 VSS (power), N11 VSS (power), N12 VSS (power), N13 VSS (power), N14 VSS (power), N15 VSS (power), N16 VSS (power), N23 VDDH (power), P11 VSS (power), P12 VSS (power), P13 VSS (power), P14 VSS (power), P15 VSS (power), P16 VSS (power), R11 VSS (power), R12 VSS (power), R13 VSS (power), R14 VSS (power), R15 VSS (power), R16 VSS (power), T11 VSS (power), T12 VSS (power), T13 VSS (power), T14 VSS (power), T15 VSS (power), T16 VSS (power), U4 NVDDL (power), W23 NVDDL (power), Y26 KAPWR (power)

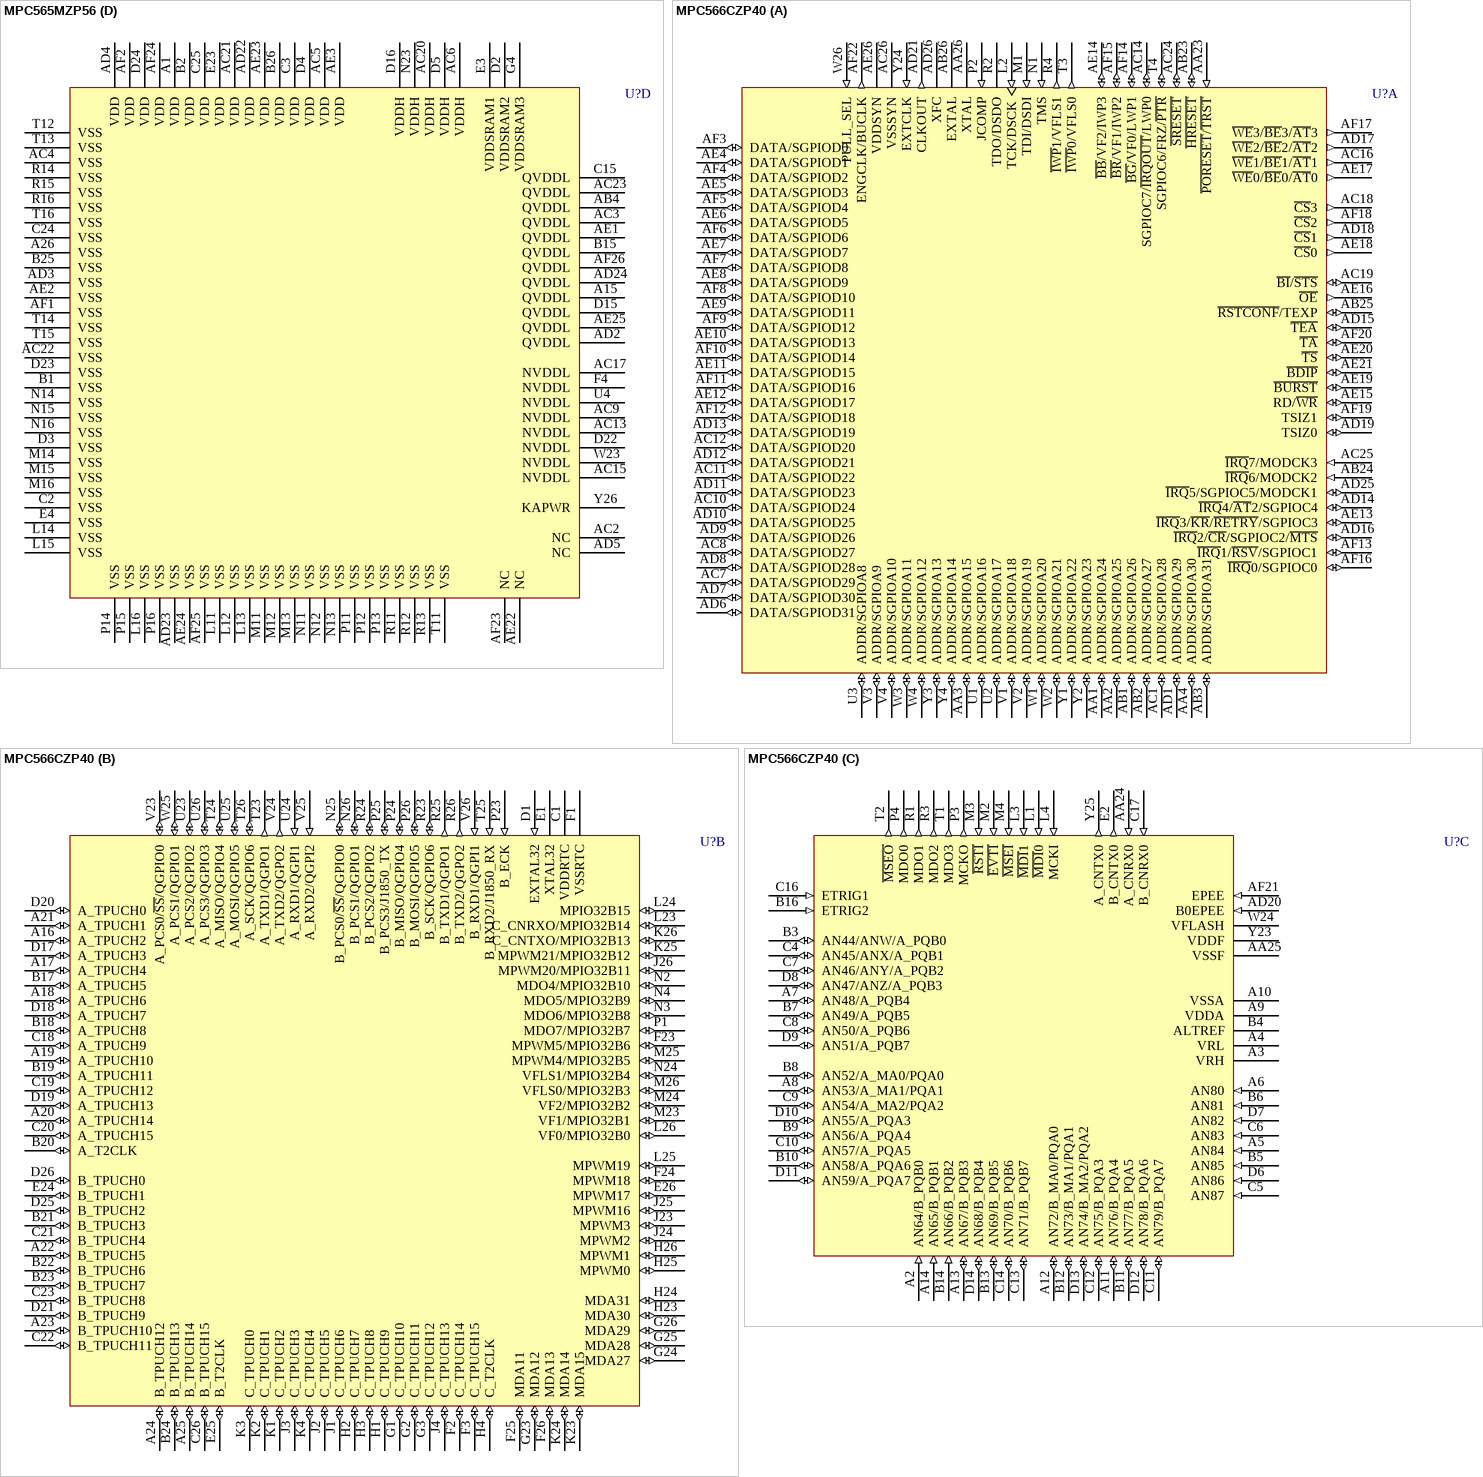
[diagram p236: symbols MPC565MZP56 to MPC566CZP40]

## MPC565MZP56
designator U?
32-Bit Microcontroller; Published: 21-Mar-2003; LatestRevisionDate: 13-Apr-2006; LatestRevisionNote: IPC-7351 Footprint Added.; DatasheetVersion: 13-Sep-2002; PackageVersion: Jun-2001; PackageReference: 1164-01; Publisher: Altium Limited; PackageDescription: 388-Ball Plastic Ball Grid Array 1 mm Pitch; ComponentLink1Description: Manufacturer Link; ComponentLink1URL: http://www.freescale.com/
footprint 1164-01 (BGA, 388-Leads, Body 27x27mm, Pitch 1mm)
3D model MPC565-1164-01 (388-Ball Plastic Ball Grid Array 1 mm Pitch)
part A pins: AA1 ADDR/SGPIOA24 (io), AA2 ADDR/SGPIOA25 (io), AA3 ADDR/SGPIOA15 (io), AA4 ADDR/SGPIOA30 (io), AA23 ~{PORESET}/~{TRST} (in), AA26 XTAL, AB1 ADDR/SGPIOA26 (io), AB2 ADDR/SGPIOA27 (io), AB3 ADDR/SGPIOA31 (io), AB23 ~{HRESET} (io), AB24 ~{IRQ}6/MODCK2 (in), AB25 ~{RSTCONF}/TEXP (io), AB26 EXTAL, AC1 ADDR/SGPIOA28 (io), AC7 DATA/SGPIOD29 (io), AC8 DATA/SGPIOD27 (io), AC10 DATA/SGPIOD24 (io), AC11 DATA/SGPIOD22 (io), AC12 DATA/SGPIOD20 (io), AC14 SGPIOC7/~{IRQOUT}/LWP0 (io), AC16 ~{WE}1/~{BE}1/~{AT}1 (out), AC18 ~{CS}3 (out), AC19 ~{BI}/~{STS} (io), AC24 ~{SRESET} (io), AC25 ~{IRQ}7/MODCK3 (in), AC26 VSSSYN (power), AD1 ADDR/SGPIOA29 (io), AD6 DATA/SGPIOD31 (io), AD7 DATA/SGPIOD30 (io), AD8 DATA/SGPIOD28 (io), AD9 DATA/SGPIOD26 (io), AD10 DATA/SGPIOD25 (io), AD11 DATA/SGPIOD23 (io), AD12 DATA/SGPIOD21 (io), AD13 DATA/SGPIOD19 (io), AD14 ~{IRQ}4/~{AT}2/SGPIOC4 (io), AD15 ~{TEA} (io), AD16 ~{IRQ}2/~{CR}/SGPIOC2/~{MTS} (io), AD17 ~{WE}2/~{BE}2/~{AT}2 (out), AD18 ~{CS}1 (out), AD19 TSIZ0 (io), AD21 CLKOUT (out), AD25 ~{IRQ}5/SGPIOC5/MODCK1 (io), AD26 XFC, AE4 DATA/SGPIOD1 (io), AE5 DATA/SGPIOD3 (io), AE6 DATA/SGPIOD5 (io), AE7 DATA/SGPIOD7 (io), AE8 DATA/SGPIOD9 (io), AE9 DATA/SGPIOD11 (io), AE10 DATA/SGPIOD13 (io), AE11 DATA/SGPIOD15 (io), AE12 DATA/SGPIOD17 (io), AE13 ~{IRQ}3/~{KR}/~{RETRY}/SGPIOC3 (io), AE14 ~{BB}/VF2/IWP3 (io), AE15 RD/~{WR} (io), AE16 ~{OE} (out), AE17 ~{WE}0/~{BE}0/~{AT}0 (out), AE18 ~{CS}0 (out), AE19 ~{BURST} (io), AE20 ~{TS} (io), AE21 ~{BDIP} (io), AE26 VDDSYN (power), AF3 DATA/SGPIOD0 (io), AF4 DATA/SGPIOD2 (io), AF5 DATA/SGPIOD4 (io), AF6 DATA/SGPIOD6 (io), AF7 DATA/SGPIOD8 (io), AF8 DATA/SGPIOD10 (io), AF9 DATA/SGPIOD12 (io), AF10 DATA/SGPIOD14 (io), AF11 DATA/SGPIOD16 (io), AF12 DATA/SGPIOD18 (io), AF13 ~{IRQ}1/~{RSV}/SGPIOC1 (io), AF14 ~{BG}/VF0/LWP1 (io), AF15 ~{BR}/VF1/IWP2 (io), AF16 ~{IRQ}0/SGPIOC0 (io), AF17 ~{WE}3/~{BE}3/~{AT}3 (out), AF18 ~{CS}2 (out), AF19 TSIZ1 (io), AF20 ~{TA} (io), AF22 ENGCLK/BUCLK (out), L2 TCK/DSCK (in), M1 TDI/DSDI (in), N1 TMS (in), P2 JCOMP (in), R2 TDO/DSDO (hiz), R4 ~{IWP}1/VFLS1 (out), T3 ~{IWP}0/VFLS0 (out), T4 SGPIOC6/FRZ/~{PTR} (io), U1 ADDR/SGPIOA16 (io), U2 ADDR/SGPIOA17 (io), U3 ADDR/SGPIOA8 (io), V1 ADDR/SGPIOA18 (io), V2 ADDR/SGPIOA19 (io), V3 ADDR/SGPIOA9 (io), V4 ADDR/SGPIOA10 (io), W1 ADDR/SGPIOA20 (io), W2 ADDR/SGPIOA21 (io), W3 ADDR/SGPIOA11 (io), W4 ADDR/SGPIOA12 (io), W26 PULL_SEL (in), Y1 ADDR/SGPIOA22 (io), Y2 ADDR/SGPIOA23 (io), Y3 ADDR/SGPIOA13 (io), Y4 ADDR/SGPIOA14 (io), Y24 EXTCLK (in)
part B pins: A16 A_TPUCH2 (io), A17 A_TPUCH4 (io), A18 A_TPUCH6 (io), A19 A_TPUCH10 (io), A20 A_TPUCH14 (io), A21 A_TPUCH1 (io), A22 B_TPUCH5 (io), A23 B_TPUCH10 (io), A24 B_TPUCH12 (io), A25 B_TPUCH14 (io), B17 A_TPUCH5 (io), B18 A_TPUCH8 (io), B19 A_TPUCH11 (io), B20 A_T2CLK (io), B21 B_TPUCH3 (io), B22 B_TPUCH6 (io), B23 B_TPUCH7 (io), B24 B_TPUCH13 (io), C1 VDDRTC (power), C18 A_TPUCH9 (io), C19 A_TPUCH12 (io), C20 A_TPUCH15 (io), C21 B_TPUCH4 (io), C22 B_TPUCH11 (io), C23 B_TPUCH8 (io), C26 B_TPUCH15 (io), D1 EXTAL32 (in), D17 A_TPUCH3 (io), D18 A_TPUCH7 (io), D19 A_TPUCH13 (io), D20 A_TPUCH0 (io), D21 B_TPUCH9 (io), D25 B_TPUCH2 (io), D26 B_TPUCH0 (io), E1 XTAL32, E24 B_TPUCH1 (io), E25 B_T2CLK (io), E26 MPWM17 (io), F1 VSSRTC (power), F2 C_TPUCH14 (io), F3 C_TPUCH15 (io), F23 MPWM5/MPIO32B6 (io), F24 MPWM18 (io), F25 MDA11 (io), F26 MDA13 (io), G1 C_TPUCH10 (io), G2 C_TPUCH11 (io), G3 C_TPUCH12 (io), G23 MDA12 (io), G24 MDA27 (io), G25 MDA28 (io), G26 MDA29 (io), H1 C_TPUCH9 (io), H2 C_TPUCH7 (io), H3 C_TPUCH8 (io), H4 C_T2CLK (io), H23 MDA30 (io), H24 MDA31 (io), H25 MPWM0 (io), H26 MPWM1 (io), J1 C_TPUCH6 (io), J2 C_TPUCH5 (io), J3 C_TPUCH3 (io), J4 C_TPUCH13 (io), J23 MPWM3 (io), J24 MPWM2 (io), J25 MPWM16 (io), J26 MPWM20/MPIO32B11 (io), K1 C_TPUCH2 (io), K2 C_TPUCH1 (io), K3 C_TPUCH0 (io), K4 C_TPUCH4 (io), K23 MDA15 (io), K24 MDA14 (io), K25 MPWM21/MPIO32B12 (io), K26 C_CNTXO/MPIO32B13 (io), L23 C_CNRXO/MPIO32B14 (io), L24 MPIO32B15 (io), L25 MPWM19 (io), L26 VF0/MPIO32B0 (io), M23 VF1/MPIO32B1 (io), M24 VF2/MPIO32B2 (io), M25 MPWM4/MPIO32B5 (io), M26 VFLS0/MPIO32B3 (io), N2 MDO4/MPIO32B10 (io), N3 MDO6/MPIO32B8 (io), N4 MDO5/MPIO32B9 (io), N24 VFLS1/MPIO32B4 (io), N25 B_PCS0/~{SS}/QGPIO0 (io), N26 B_PCS1/QGPIO1 (io), P1 MDO7/MPIO32B7 (io), P23 B_ECK (in), P24 B_MISO/QGPIO4 (io), P25 B_PCS3/J1850_TX (io), P26 B_MOSI/QGPIO5 (io), R23 B_SCK/QGPIO6 (io), R24 B_PCS2/QGPIO2 (io), R25 B_TXD1/QGPO1 (out), R26 B_TXD2/QGPO2 (out), T23 A_TXD1/QGPO1 (out), T24 A_MISO/QGPIO4 (io), T25 B_RXD2/J1850_RX (in), T26 A_SCK/QGPIO6 (io), U23 A_PCS2/QGPIO2 (io), U24 A_RXD1/QGPI1 (in), U25 A_MOSI/QGPIO5 (io), U26 A_PCS3/QGPIO3 (io), V23 A_PCS0/~{SS}/QGPIO0 (io), V24 A_TXD2/QGPO2 (out), V25 A_RXD2/QGPI2 (in), V26 B_RXD1/QGPI1 (in), W25 A_PCS1/QGPIO1 (io)
part C pins: A2 AN64/B_PQB0 (in), A3 VRH, A4 VRL, A5 AN84 (in), A6 AN80 (in), A7 AN48/A_PQB4 (io), A8 AN53/A_MA1/PQA1 (io), A9 VDDA (power), A10 VSSA (power), A11 AN76/B_PQA4 (io), A12 AN72/B_MA0/PQA0 (io), A13 AN67/B_PQB3 (io), A14 AN65/B_PQB1 (in), AA24 A_CNRX0 (in), AA25 VSSF (power), AD20 B0EPEE (in), AF21 EPEE (in), B3 AN44/ANW/A_PQB0 (io), B4 ALTREF, B5 AN85 (in), B6 AN81 (in), B7 AN49/A_PQB5 (io), B8 AN52/A_MA0/PQA0 (io), B9 AN56/A_PQA4 (io), B10 AN58/A_PQA6 (io), B11 AN77/B_PQA5 (io), B12 AN73/B_MA1/PQA1 (io), B13 AN69/B_PQB5 (io), B14 AN66/B_PQB2 (in), B16 ETRIG2 (in), C4 AN45/ANX/A_PQB1 (io), C5 AN87 (in), C6 AN83 (in), C7 AN46/ANY/A_PQB2 (io), C8 AN50/A_PQB6 (io), C9 AN54/A_MA2/PQA2 (io), C10 AN57/A_PQA5 (io), C11 AN79/B_PQA7 (io), C12 AN75/B_PQA3 (io), C13 AN71/B_PQB7 (io), C14 AN70/B_PQB6 (io), C16 ETRIG1 (in), C17 B_CNRX0 (in), D6 AN86 (in), D7 AN82 (in), D8 AN47/ANZ/A_PQB3 (io), D9 AN51/A_PQB7 (io), D10 AN55/A_PQA3 (io), D11 AN59/A_PQA7 (io), D12 AN78/B_PQA6 (io), D13 AN74/B_MA2/PQA2 (io), D14 AN68/B_PQB4 (io), E2 B_CNTX0 (out), L1 ~{MDI}0 (in), L3 ~{MDI}1 (in), L4 MCKI (in), M2 ~{EVTI} (in), M3 ~{RSTI} (in), M4 ~{MSEI} (in), P3 MCKO (out), P4 MDO0 (out), R1 MDO1 (out), R3 MDO2 (out), T1 MDO3 (out), T2 ~{MSEO} (out), W24 VFLASH (power), Y23 VDDF (power), Y25 A_CNTX0 (out)
part D pins: A1 VDD (power), A15 QVDDL (power), A26 VSS (power), AB4 QVDDL (power), AC2 NC, AC3 QVDDL (power), AC4 VSS (power), AC5 VDD (power), AC6 VDDH (power), AC9 NVDDL (power), AC13 NVDDL (power), AC15 NVDDL (power), AC17 NVDDL (power), AC20 VDDH (power), AC21 VDD (power), AC22 VSS (power), AC23 QVDDL (power), AD2 QVDDL (power), AD3 VSS (power), AD4 VDD (power), AD5 NC, AD22 VDD (power), AD23 VSS (power), AD24 QVDDL (power), AE1 QVDDL (power), AE2 VSS (power), AE3 VDD (power), AE22 NC, AE23 VDD (power), AE24 VSS (power), AE25 QVDDL (power), AF1 VSS (power), AF2 VDD (power), AF23 NC, AF24 VDD (power), AF25 VSS (power), AF26 QVDDL (power), B1 VSS (power), B2 VDD (power), B15 QVDDL (power), B25 VSS (power), B26 VDD (power), C2 VSS (power), C3 VDD (power), C15 QVDDL (power), C24 VSS (power), C25 VDD (power), D2 VDDSRAM2 (power), D3 VSS (power), D4 VDD (power), D5 VDDH (power), D15 QVDDL (power), D16 VDDH (power), D22 NVDDL (power), D23 VSS (power), D24 VDD (power), E3 VDDSRAM1 (power), E4 VSS (power), E23 VDD (power), F4 NVDDL (power), G4 VDDSRAM3 (power), L11 VSS (power), L12 VSS (power), L13 VSS (power), L14 VSS (power), L15 VSS (power), L16 VSS (power), M11 VSS (power), M12 VSS (power), M13 VSS (power), M14 VSS (power), M15 VSS (power), M16 VSS (power), N11 VSS (power), N12 VSS (power), N13 VSS (power), N14 VSS (power), N15 VSS (power), N16 VSS (power), N23 VDDH (power), P11 VSS (power), P12 VSS (power), P13 VSS (power), P14 VSS (power), P15 VSS (power), P16 VSS (power), R11 VSS (power), R12 VSS (power), R13 VSS (power), R14 VSS (power), R15 VSS (power), R16 VSS (power), T11 VSS (power), T12 VSS (power), T13 VSS (power), T14 VSS (power), T15 VSS (power), T16 VSS (power), U4 NVDDL (power), W23 NVDDL (power), Y26 KAPWR (power)

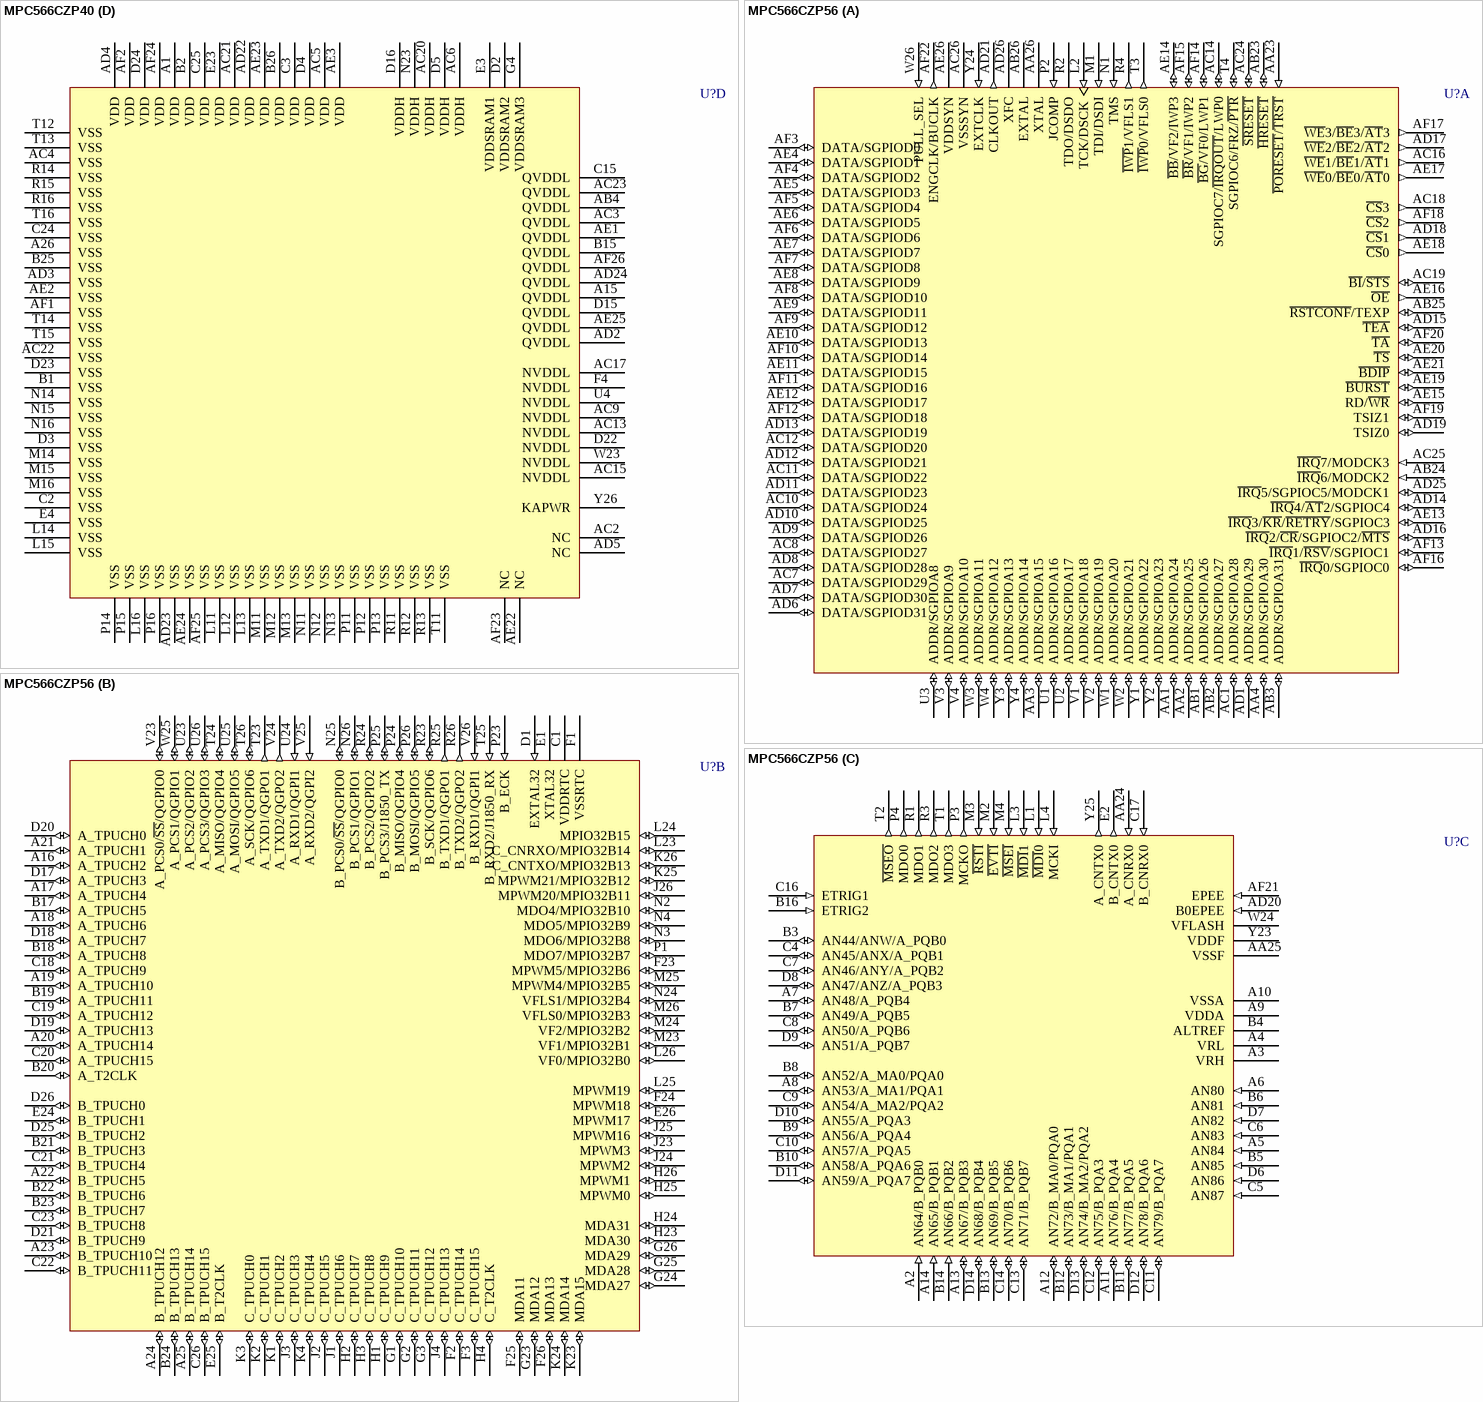
[diagram p237: symbols MPC566CZP40 to MPC566CZP56]

## MPC566CZP40
designator U?
32-Bit Microcontroller; Published: 21-Mar-2003; LatestRevisionDate: 13-Apr-2006; LatestRevisionNote: IPC-7351 Footprint Added.; DatasheetVersion: 13-Sep-2002; PackageVersion: Jun-2001; PackageReference: 1164-01; Publisher: Altium Limited; PackageDescription: 388-Ball Plastic Ball Grid Array 1 mm Pitch; ComponentLink1Description: Manufacturer Link; ComponentLink1URL: http://www.freescale.com/
footprint 1164-01 (BGA, 388-Leads, Body 27x27mm, Pitch 1mm)
3D model MPC566-1164-01 (388-Ball Plastic Ball Grid Array 1 mm Pitch)
part A pins: AA1 ADDR/SGPIOA24 (io), AA2 ADDR/SGPIOA25 (io), AA3 ADDR/SGPIOA15 (io), AA4 ADDR/SGPIOA30 (io), AA23 ~{PORESET}/~{TRST} (in), AA26 XTAL, AB1 ADDR/SGPIOA26 (io), AB2 ADDR/SGPIOA27 (io), AB3 ADDR/SGPIOA31 (io), AB23 ~{HRESET} (io), AB24 ~{IRQ}6/MODCK2 (in), AB25 ~{RSTCONF}/TEXP (io), AB26 EXTAL, AC1 ADDR/SGPIOA28 (io), AC7 DATA/SGPIOD29 (io), AC8 DATA/SGPIOD27 (io), AC10 DATA/SGPIOD24 (io), AC11 DATA/SGPIOD22 (io), AC12 DATA/SGPIOD20 (io), AC14 SGPIOC7/~{IRQOUT}/LWP0 (io), AC16 ~{WE}1/~{BE}1/~{AT}1 (out), AC18 ~{CS}3 (out), AC19 ~{BI}/~{STS} (io), AC24 ~{SRESET} (io), AC25 ~{IRQ}7/MODCK3 (in), AC26 VSSSYN (power), AD1 ADDR/SGPIOA29 (io), AD6 DATA/SGPIOD31 (io), AD7 DATA/SGPIOD30 (io), AD8 DATA/SGPIOD28 (io), AD9 DATA/SGPIOD26 (io), AD10 DATA/SGPIOD25 (io), AD11 DATA/SGPIOD23 (io), AD12 DATA/SGPIOD21 (io), AD13 DATA/SGPIOD19 (io), AD14 ~{IRQ}4/~{AT}2/SGPIOC4 (io), AD15 ~{TEA} (io), AD16 ~{IRQ}2/~{CR}/SGPIOC2/~{MTS} (io), AD17 ~{WE}2/~{BE}2/~{AT}2 (out), AD18 ~{CS}1 (out), AD19 TSIZ0 (io), AD21 CLKOUT (out), AD25 ~{IRQ}5/SGPIOC5/MODCK1 (io), AD26 XFC, AE4 DATA/SGPIOD1 (io), AE5 DATA/SGPIOD3 (io), AE6 DATA/SGPIOD5 (io), AE7 DATA/SGPIOD7 (io), AE8 DATA/SGPIOD9 (io), AE9 DATA/SGPIOD11 (io), AE10 DATA/SGPIOD13 (io), AE11 DATA/SGPIOD15 (io), AE12 DATA/SGPIOD17 (io), AE13 ~{IRQ}3/~{KR}/~{RETRY}/SGPIOC3 (io), AE14 ~{BB}/VF2/IWP3 (io), AE15 RD/~{WR} (io), AE16 ~{OE} (out), AE17 ~{WE}0/~{BE}0/~{AT}0 (out), AE18 ~{CS}0 (out), AE19 ~{BURST} (io), AE20 ~{TS} (io), AE21 ~{BDIP} (io), AE26 VDDSYN (power), AF3 DATA/SGPIOD0 (io), AF4 DATA/SGPIOD2 (io), AF5 DATA/SGPIOD4 (io), AF6 DATA/SGPIOD6 (io), AF7 DATA/SGPIOD8 (io), AF8 DATA/SGPIOD10 (io), AF9 DATA/SGPIOD12 (io), AF10 DATA/SGPIOD14 (io), AF11 DATA/SGPIOD16 (io), AF12 DATA/SGPIOD18 (io), AF13 ~{IRQ}1/~{RSV}/SGPIOC1 (io), AF14 ~{BG}/VF0/LWP1 (io), AF15 ~{BR}/VF1/IWP2 (io), AF16 ~{IRQ}0/SGPIOC0 (io), AF17 ~{WE}3/~{BE}3/~{AT}3 (out), AF18 ~{CS}2 (out), AF19 TSIZ1 (io), AF20 ~{TA} (io), AF22 ENGCLK/BUCLK (out), L2 TCK/DSCK (in), M1 TDI/DSDI (in), N1 TMS (in), P2 JCOMP (in), R2 TDO/DSDO (hiz), R4 ~{IWP}1/VFLS1 (out), T3 ~{IWP}0/VFLS0 (out), T4 SGPIOC6/FRZ/~{PTR} (io), U1 ADDR/SGPIOA16 (io), U2 ADDR/SGPIOA17 (io), U3 ADDR/SGPIOA8 (io), V1 ADDR/SGPIOA18 (io), V2 ADDR/SGPIOA19 (io), V3 ADDR/SGPIOA9 (io), V4 ADDR/SGPIOA10 (io), W1 ADDR/SGPIOA20 (io), W2 ADDR/SGPIOA21 (io), W3 ADDR/SGPIOA11 (io), W4 ADDR/SGPIOA12 (io), W26 PULL_SEL (in), Y1 ADDR/SGPIOA22 (io), Y2 ADDR/SGPIOA23 (io), Y3 ADDR/SGPIOA13 (io), Y4 ADDR/SGPIOA14 (io), Y24 EXTCLK (in)
part B pins: A16 A_TPUCH2 (io), A17 A_TPUCH4 (io), A18 A_TPUCH6 (io), A19 A_TPUCH10 (io), A20 A_TPUCH14 (io), A21 A_TPUCH1 (io), A22 B_TPUCH5 (io), A23 B_TPUCH10 (io), A24 B_TPUCH12 (io), A25 B_TPUCH14 (io), B17 A_TPUCH5 (io), B18 A_TPUCH8 (io), B19 A_TPUCH11 (io), B20 A_T2CLK (io), B21 B_TPUCH3 (io), B22 B_TPUCH6 (io), B23 B_TPUCH7 (io), B24 B_TPUCH13 (io), C1 VDDRTC (power), C18 A_TPUCH9 (io), C19 A_TPUCH12 (io), C20 A_TPUCH15 (io), C21 B_TPUCH4 (io), C22 B_TPUCH11 (io), C23 B_TPUCH8 (io), C26 B_TPUCH15 (io), D1 EXTAL32 (in), D17 A_TPUCH3 (io), D18 A_TPUCH7 (io), D19 A_TPUCH13 (io), D20 A_TPUCH0 (io), D21 B_TPUCH9 (io), D25 B_TPUCH2 (io), D26 B_TPUCH0 (io), E1 XTAL32, E24 B_TPUCH1 (io), E25 B_T2CLK (io), E26 MPWM17 (io), F1 VSSRTC (power), F2 C_TPUCH14 (io), F3 C_TPUCH15 (io), F23 MPWM5/MPIO32B6 (io), F24 MPWM18 (io), F25 MDA11 (io), F26 MDA13 (io), G1 C_TPUCH10 (io), G2 C_TPUCH11 (io), G3 C_TPUCH12 (io), G23 MDA12 (io), G24 MDA27 (io), G25 MDA28 (io), G26 MDA29 (io), H1 C_TPUCH9 (io), H2 C_TPUCH7 (io), H3 C_TPUCH8 (io), H4 C_T2CLK (io), H23 MDA30 (io), H24 MDA31 (io), H25 MPWM0 (io), H26 MPWM1 (io), J1 C_TPUCH6 (io), J2 C_TPUCH5 (io), J3 C_TPUCH3 (io), J4 C_TPUCH13 (io), J23 MPWM3 (io), J24 MPWM2 (io), J25 MPWM16 (io), J26 MPWM20/MPIO32B11 (io), K1 C_TPUCH2 (io), K2 C_TPUCH1 (io), K3 C_TPUCH0 (io), K4 C_TPUCH4 (io), K23 MDA15 (io), K24 MDA14 (io), K25 MPWM21/MPIO32B12 (io), K26 C_CNTXO/MPIO32B13 (io), L23 C_CNRXO/MPIO32B14 (io), L24 MPIO32B15 (io), L25 MPWM19 (io), L26 VF0/MPIO32B0 (io), M23 VF1/MPIO32B1 (io), M24 VF2/MPIO32B2 (io), M25 MPWM4/MPIO32B5 (io), M26 VFLS0/MPIO32B3 (io), N2 MDO4/MPIO32B10 (io), N3 MDO6/MPIO32B8 (io), N4 MDO5/MPIO32B9 (io), N24 VFLS1/MPIO32B4 (io), N25 B_PCS0/~{SS}/QGPIO0 (io), N26 B_PCS1/QGPIO1 (io), P1 MDO7/MPIO32B7 (io), P23 B_ECK (in), P24 B_MISO/QGPIO4 (io), P25 B_PCS3/J1850_TX (io), P26 B_MOSI/QGPIO5 (io), R23 B_SCK/QGPIO6 (io), R24 B_PCS2/QGPIO2 (io), R25 B_TXD1/QGPO1 (out), R26 B_TXD2/QGPO2 (out), T23 A_TXD1/QGPO1 (out), T24 A_MISO/QGPIO4 (io), T25 B_RXD2/J1850_RX (in), T26 A_SCK/QGPIO6 (io), U23 A_PCS2/QGPIO2 (io), U24 A_RXD1/QGPI1 (in), U25 A_MOSI/QGPIO5 (io), U26 A_PCS3/QGPIO3 (io), V23 A_PCS0/~{SS}/QGPIO0 (io), V24 A_TXD2/QGPO2 (out), V25 A_RXD2/QGPI2 (in), V26 B_RXD1/QGPI1 (in), W25 A_PCS1/QGPIO1 (io)
part C pins: A2 AN64/B_PQB0 (in), A3 VRH, A4 VRL, A5 AN84 (in), A6 AN80 (in), A7 AN48/A_PQB4 (io), A8 AN53/A_MA1/PQA1 (io), A9 VDDA (power), A10 VSSA (power), A11 AN76/B_PQA4 (io), A12 AN72/B_MA0/PQA0 (io), A13 AN67/B_PQB3 (io), A14 AN65/B_PQB1 (in), AA24 A_CNRX0 (in), AA25 VSSF (power), AD20 B0EPEE (in), AF21 EPEE (in), B3 AN44/ANW/A_PQB0 (io), B4 ALTREF, B5 AN85 (in), B6 AN81 (in), B7 AN49/A_PQB5 (io), B8 AN52/A_MA0/PQA0 (io), B9 AN56/A_PQA4 (io), B10 AN58/A_PQA6 (io), B11 AN77/B_PQA5 (io), B12 AN73/B_MA1/PQA1 (io), B13 AN69/B_PQB5 (io), B14 AN66/B_PQB2 (in), B16 ETRIG2 (in), C4 AN45/ANX/A_PQB1 (io), C5 AN87 (in), C6 AN83 (in), C7 AN46/ANY/A_PQB2 (io), C8 AN50/A_PQB6 (io), C9 AN54/A_MA2/PQA2 (io), C10 AN57/A_PQA5 (io), C11 AN79/B_PQA7 (io), C12 AN75/B_PQA3 (io), C13 AN71/B_PQB7 (io), C14 AN70/B_PQB6 (io), C16 ETRIG1 (in), C17 B_CNRX0 (in), D6 AN86 (in), D7 AN82 (in), D8 AN47/ANZ/A_PQB3 (io), D9 AN51/A_PQB7 (io), D10 AN55/A_PQA3 (io), D11 AN59/A_PQA7 (io), D12 AN78/B_PQA6 (io), D13 AN74/B_MA2/PQA2 (io), D14 AN68/B_PQB4 (io), E2 B_CNTX0 (out), L1 ~{MDI}0 (in), L3 ~{MDI}1 (in), L4 MCKI (in), M2 ~{EVTI} (in), M3 ~{RSTI} (in), M4 ~{MSEI} (in), P3 MCKO (out), P4 MDO0 (out), R1 MDO1 (out), R3 MDO2 (out), T1 MDO3 (out), T2 ~{MSEO} (out), W24 VFLASH (power), Y23 VDDF (power), Y25 A_CNTX0 (out)
part D pins: A1 VDD (power), A15 QVDDL (power), A26 VSS (power), AB4 QVDDL (power), AC2 NC, AC3 QVDDL (power), AC4 VSS (power), AC5 VDD (power), AC6 VDDH (power), AC9 NVDDL (power), AC13 NVDDL (power), AC15 NVDDL (power), AC17 NVDDL (power), AC20 VDDH (power), AC21 VDD (power), AC22 VSS (power), AC23 QVDDL (power), AD2 QVDDL (power), AD3 VSS (power), AD4 VDD (power), AD5 NC, AD22 VDD (power), AD23 VSS (power), AD24 QVDDL (power), AE1 QVDDL (power), AE2 VSS (power), AE3 VDD (power), AE22 NC, AE23 VDD (power), AE24 VSS (power), AE25 QVDDL (power), AF1 VSS (power), AF2 VDD (power), AF23 NC, AF24 VDD (power), AF25 VSS (power), AF26 QVDDL (power), B1 VSS (power), B2 VDD (power), B15 QVDDL (power), B25 VSS (power), B26 VDD (power), C2 VSS (power), C3 VDD (power), C15 QVDDL (power), C24 VSS (power), C25 VDD (power), D2 VDDSRAM2 (power), D3 VSS (power), D4 VDD (power), D5 VDDH (power), D15 QVDDL (power), D16 VDDH (power), D22 NVDDL (power), D23 VSS (power), D24 VDD (power), E3 VDDSRAM1 (power), E4 VSS (power), E23 VDD (power), F4 NVDDL (power), G4 VDDSRAM3 (power), L11 VSS (power), L12 VSS (power), L13 VSS (power), L14 VSS (power), L15 VSS (power), L16 VSS (power), M11 VSS (power), M12 VSS (power), M13 VSS (power), M14 VSS (power), M15 VSS (power), M16 VSS (power), N11 VSS (power), N12 VSS (power), N13 VSS (power), N14 VSS (power), N15 VSS (power), N16 VSS (power), N23 VDDH (power), P11 VSS (power), P12 VSS (power), P13 VSS (power), P14 VSS (power), P15 VSS (power), P16 VSS (power), R11 VSS (power), R12 VSS (power), R13 VSS (power), R14 VSS (power), R15 VSS (power), R16 VSS (power), T11 VSS (power), T12 VSS (power), T13 VSS (power), T14 VSS (power), T15 VSS (power), T16 VSS (power), U4 NVDDL (power), W23 NVDDL (power), Y26 KAPWR (power)

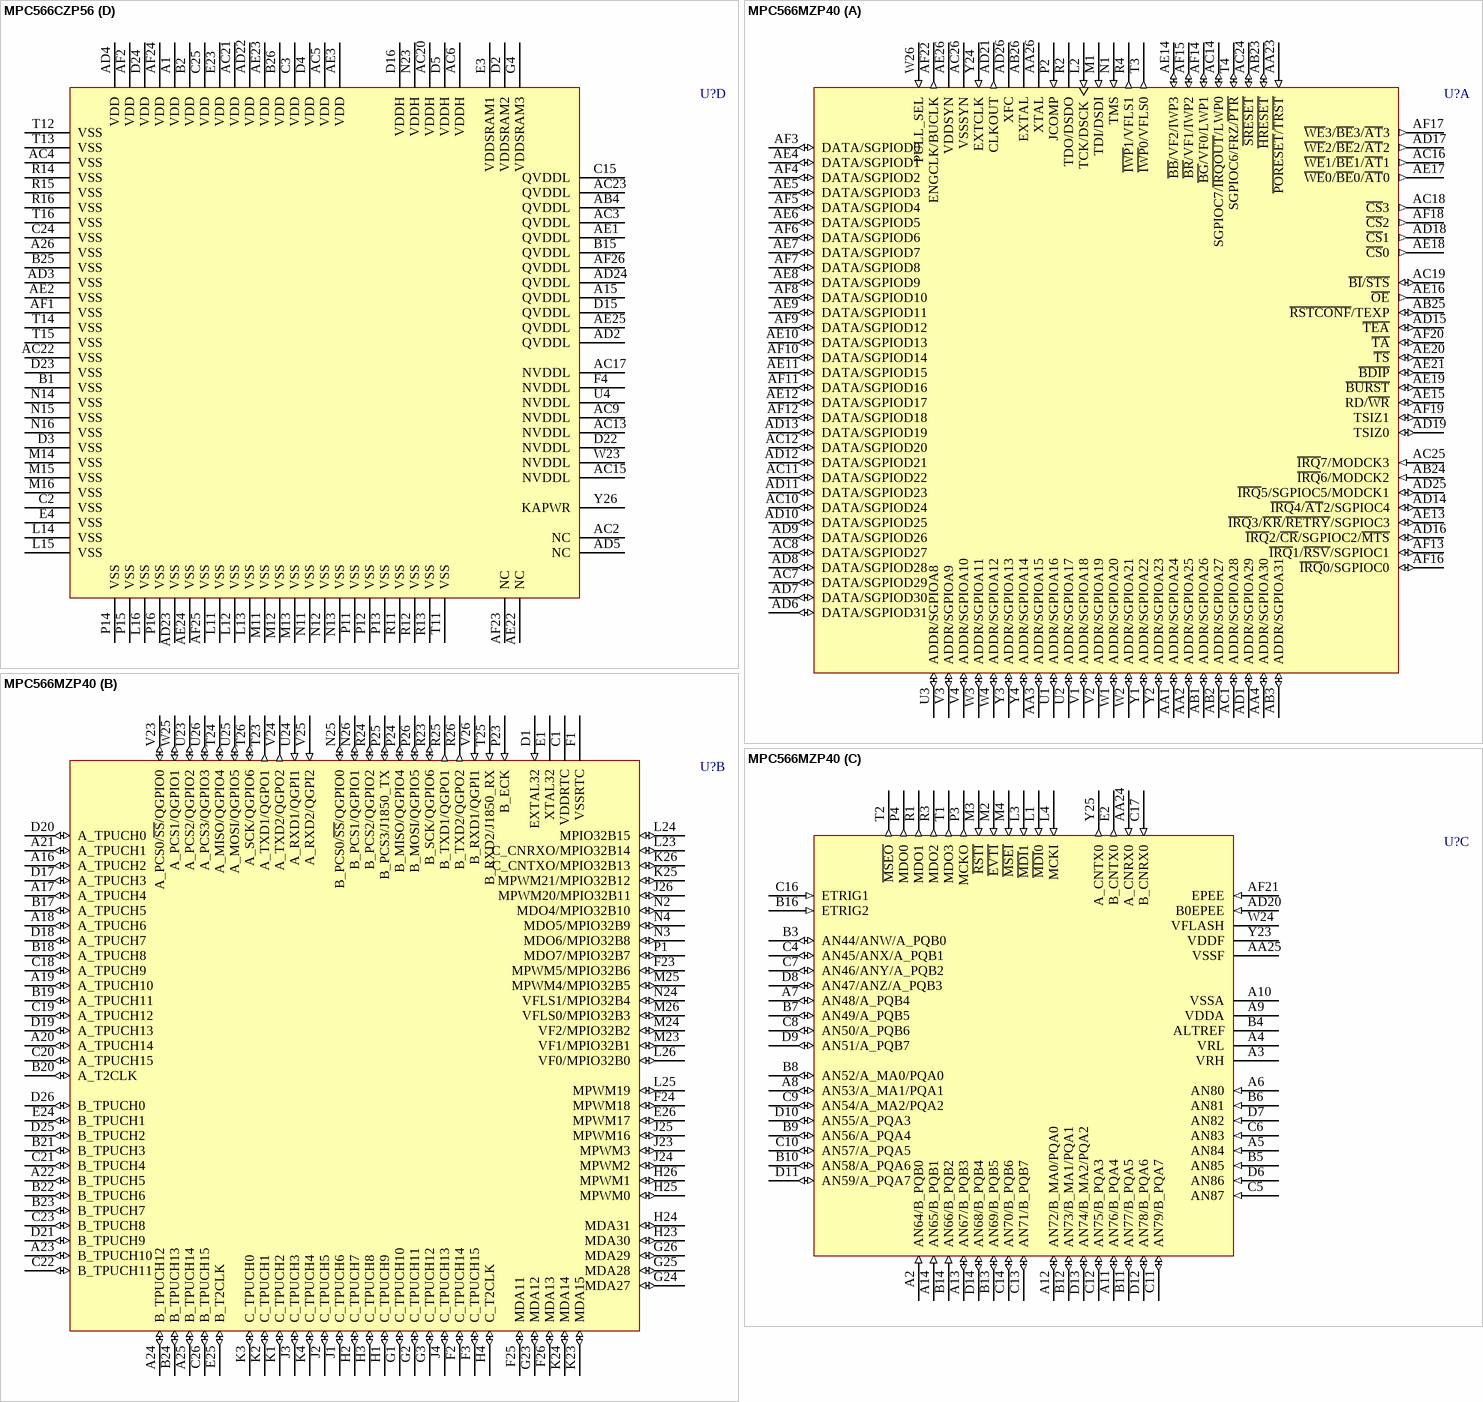
[diagram p238: symbols MPC566CZP56 to MPC566MZP40]